# Altium schematic symbol library SamacSys.SchLib: 1311 symbols (part 6 of 14)
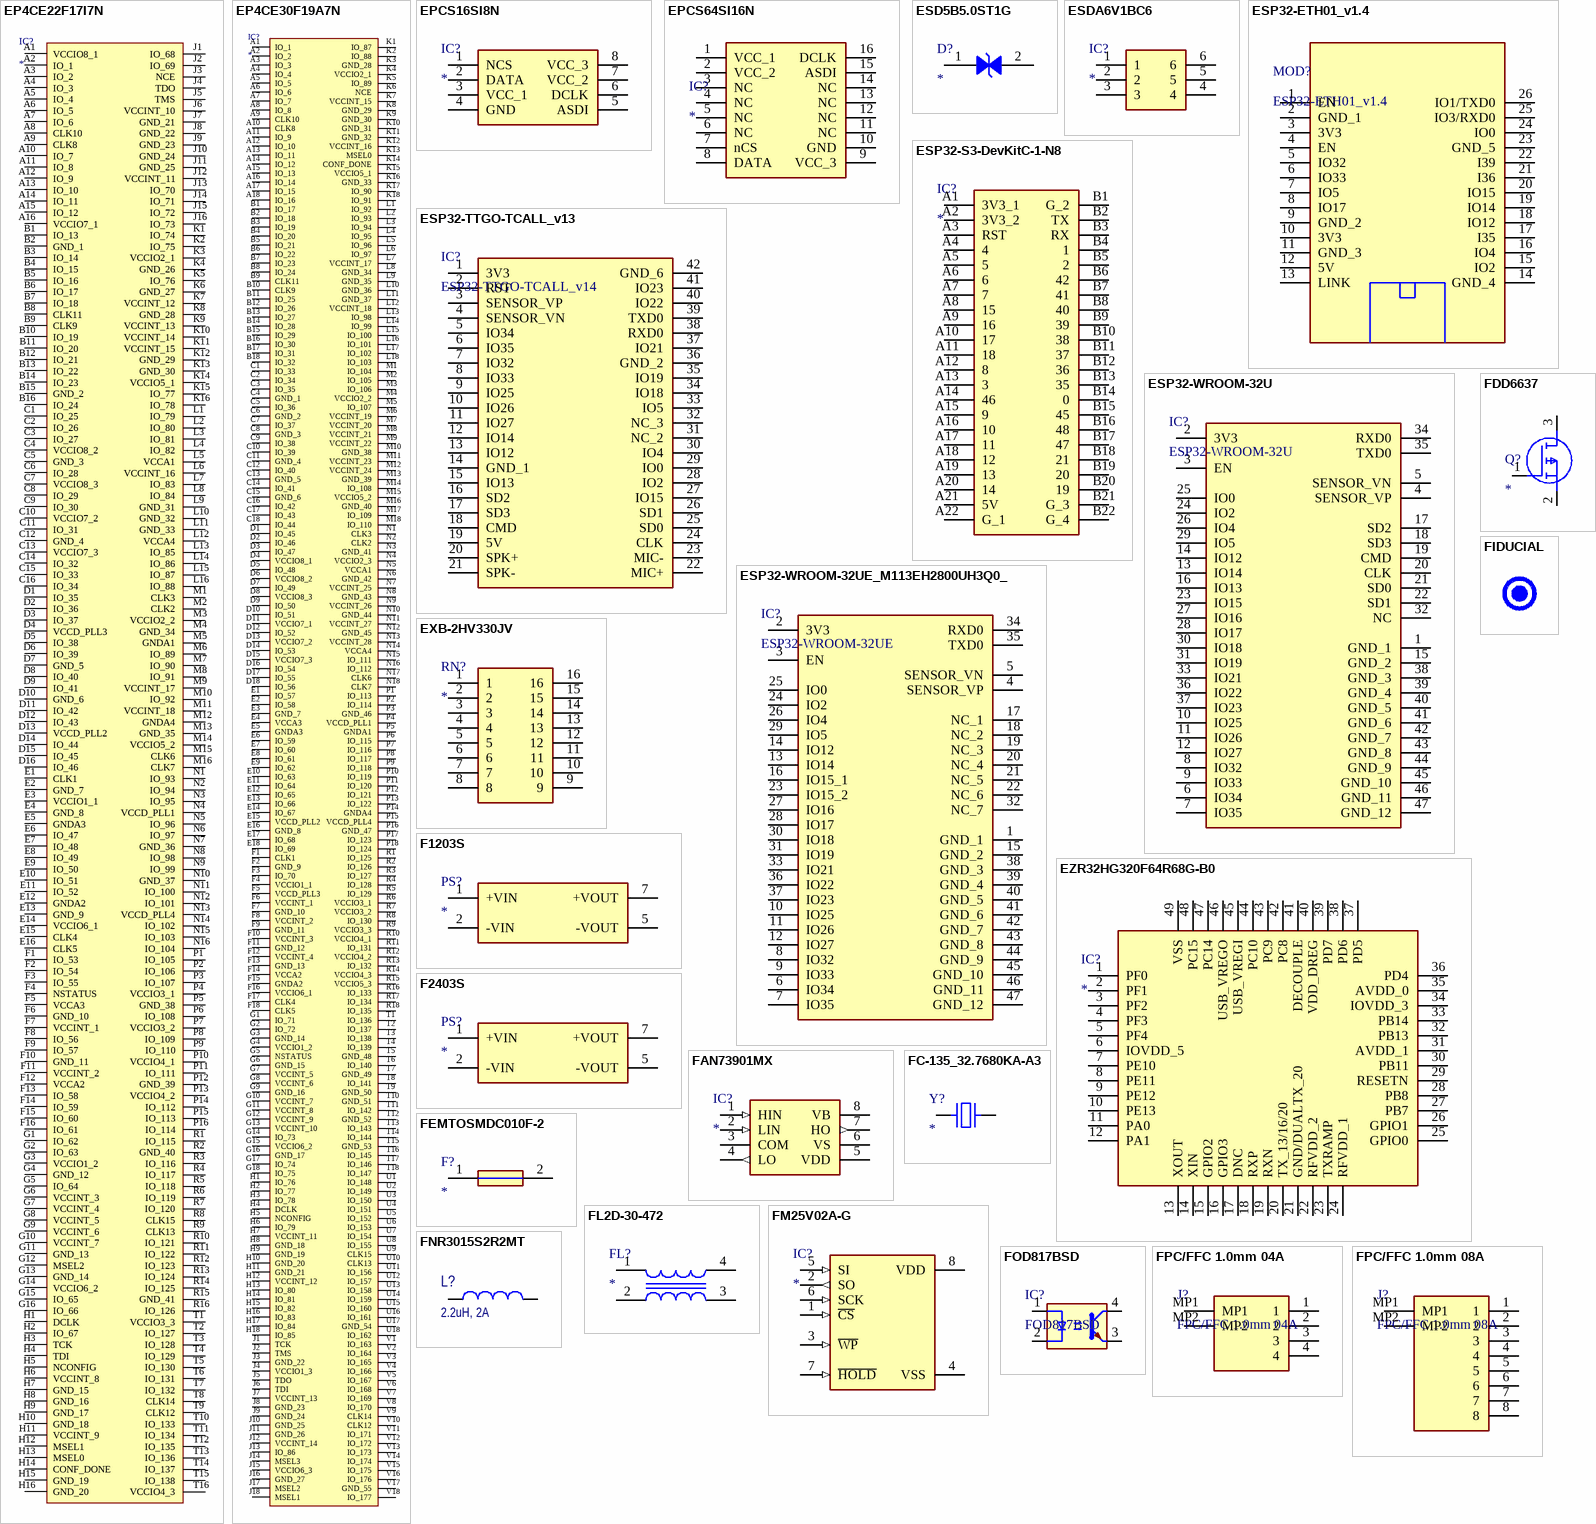
[diagram p55: symbols EP4CE22F17I7N to FPC/FFC 1.0mm 08A]

## EP4CE22F17I7N
designator IC?
Integrated Circuit; Manufacturer_Name: Intel; Manufacturer_Part_Number: EP4CE22F17I7N; Datasheet Link: https://componentsearchengine.com/Datasheets/1/EP4CE22F17I7N.pdf; Height: 1.55mm; Mouser Part Number: 989-EP4CE22F17I7N; Mouser Price/Stock: https://www.mouser.co.uk/ProductDetail/Intel-Altera/EP4CE22F17I7N?qs=jblrfmjbeiH%2FPT5k%2FC0CEQ%3D%3D; Arrow Part Number: EP4CE22F17I7N; Arrow Price/Stock: https://www.arrow.com/en/products/ep4ce22f17i7n/intel?region=nac
footprint BGA256C100P16X16_1700X1700X155
pins: A1 VCCIO8_1, A2 IO_1, A3 IO_2, A4 IO_3, A5 IO_4, A6 IO_5, A7 IO_6, A8 CLK10, A9 CLK8, A10 IO_7, A11 IO_8, A12 IO_9, A13 IO_10, A14 IO_11, A15 IO_12, A16 VCCIO7_1, B1 IO_13, B2 GND_1, B3 IO_14, B4 IO_15, B5 IO_16, B6 IO_17, B7 IO_18, B8 CLK11, B9 CLK9, B10 IO_19, B11 IO_20, B12 IO_21, B13 IO_22, B14 IO_23, B15 GND_2, B16 IO_24, C1 IO_25, C2 IO_26, C3 IO_27, C4 VCCIO8_2, C5 GND_3, C6 IO_28, C7 VCCIO8_3, C8 IO_29, C9 IO_30, C10 VCCIO7_2, C11 IO_31, C12 GND_4, C13 VCCIO7_3, C14 IO_32, C15 IO_33, C16 IO_34, D1 IO_35, D2 IO_36, D3 IO_37, D4 VCCD_PLL3, D5 IO_38, D6 IO_39, D7 GND_5, D8 IO_40, D9 IO_41, D10 GND_6, D11 IO_42, D12 IO_43, D13 VCCD_PLL2, D14 IO_44, D15 IO_45, D16 IO_46, E1 CLK1, E2 GND_7, E3 VCCIO1_1, E4 GND_8, E5 GNDA3, E6 IO_47, E7 IO_48, E8 IO_49, E9 IO_50, E10 IO_51, E11 IO_52, E12 GNDA2, E13 GND_9, E14 VCCIO6_1, E15 CLK4, E16 CLK5, F1 IO_53, F2 IO_54, F3 IO_55, F4 NSTATUS, F5 VCCA3, F6 GND_10, F7 VCCINT_1, F8 IO_56, F9 IO_57, F10 GND_11, F11 VCCINT_2, F12 VCCA2, F13 IO_58, F14 IO_59, F15 IO_60, F16 IO_61, G1 IO_62, G2 IO_63, G3 VCCIO1_2, G4 GND_12, G5 IO_64, G6 VCCINT_3, G7 VCCINT_4, G8 VCCINT_5, G9 VCCINT_6, G10 VCCINT_7, G11 GND_13, G12 MSEL2, G13 GND_14, G14 VCCIO6_2, G15 IO_65, G16 IO_66, H1 DCLK, H2 IO_67, H3 TCK, H4 TDI, H5 NCONFIG, H6 VCCINT_8, H7 GND_15, H8 GND_16, H9 GND_17, H10 GND_18, H11 VCCINT_9, H12 MSEL1, H13 MSEL0, H14 CONF_DONE, H15 GND_19, H16 GND_20, J1 IO_68, J2 IO_69, J3 NCE, J4 TDO, J5 TMS, J6 VCCINT_10, J7 GND_21, J8 GND_22, J9 GND_23, J10 GND_24, J11 GND_25, J12 VCCINT_11, J13 IO_70, J14 IO_71, J15 IO_72, J16 IO_73, K1 IO_74, K2 IO_75, K3 VCCIO2_1, K4 GND_26, K5 IO_76, K6 GND_27, K7 VCCINT_12, K8 GND_28, K9 VCCINT_13, K10 VCCINT_14, K11 VCCINT_15, K12 GND_29, K13 GND_30, K14 VCCIO5_1, K15 IO_77, K16 IO_78, L1 IO_79, L2 IO_80, L3 IO_81, L4 IO_82, L5 VCCA1, L6 VCCINT_16, L7 IO_83, L8 IO_84, L9 GND_31, L10 GND_32, L11 GND_33, L12 VCCA4, L13 IO_85, L14 IO_86, L15 IO_87, L16 IO_88, M1 CLK3, M2 CLK2, M3 VCCIO2_2, M4 GND_34, M5 GNDA1, M6 IO_89, M7 IO_90, M8 IO_91, M9 VCCINT_17, M10 IO_92, M11 VCCINT_18, M12 GNDA4, M13 GND_35, M14 VCCIO5_2, M15 CLK6, M16 CLK7, N1 IO_93, N2 IO_94, N3 IO_95, N4 VCCD_PLL1, N5 IO_96, N6 IO_97, N7 GND_36, N8 IO_98, N9 IO_99, N10 GND_37, N11 IO_100, N12 IO_101, N13 VCCD_PLL4, N14 IO_102, N15 IO_103, N16 IO_104, P1 IO_105, P2 IO_106, P3 IO_107, P4 VCCIO3_1, P5 GND_38, P6 IO_108, P7 VCCIO3_2, P8 IO_109, P9 IO_110, P10 VCCIO4_1, P11 IO_111, P12 GND_39, P13 VCCIO4_2, P14 IO_112, P15 IO_113, P16 IO_114, R1 IO_115, R2 GND_40, R3 IO_116, R4 IO_117, R5 IO_118, R6 IO_119, R7 IO_120, R8 CLK15, R9 CLK13, R10 IO_121, R11 IO_122, R12 IO_123, R13 IO_124, R14 IO_125, R15 GND_41, R16 IO_126, T1 VCCIO3_3, T2 IO_127, T3 IO_128, T4 IO_129, T5 IO_130, T6 IO_131, T7 IO_132, T8 CLK14, T9 CLK12, T10 IO_133, T11 IO_134, T12 IO_135, T13 IO_136, T14 IO_137, T15 IO_138, T16 VCCIO4_3

## EP4CE30F19A7N
designator IC?
Integrated Circuit; Manufacturer_Name: Intel; Manufacturer_Part_Number: EP4CE30F19A7N; Datasheet Link: https://www.intel.com/content/dam/www/programmable/us/en/pdfs/literature/hb/cyclone-iv/cyiv-53001.pdf; Height: 1.9mm; Mouser Part Number: 989-EP4CE30F19A7N; Mouser Price/Stock: https://www.mouser.co.uk/ProductDetail/Intel-Altera/EP4CE30F19A7N?qs=TN6zvtaX%252BaO%252Bzz8OzstL2w%3D%3D; Arrow Part Number: EP4CE30F19A7N; Arrow Price/Stock: https://www.arrow.com/en/products/ep4ce30f19a7n/intel?region=nac
footprint BGA324C100P18X18_1900X1900X190
pins: A1 IO_1, A2 IO_2, A3 IO_3, A4 IO_4, A5 IO_5, A6 IO_6, A7 IO_7, A8 IO_8, A9 CLK10, A10 CLK8, A11 IO_9, A12 IO_10, A13 IO_11, A14 IO_12, A15 IO_13, A16 IO_14, A17 IO_15, A18 IO_16, B1 IO_17, B2 IO_18, B3 IO_19, B4 IO_20, B5 IO_21, B6 IO_22, B7 IO_23, B8 IO_24, B9 CLK11, B10 CLK9, B11 IO_25, B12 IO_26, B13 IO_27, B14 IO_28, B15 IO_29, B16 IO_30, B17 IO_31, B18 IO_32, C1 IO_33, C2 IO_34, C3 IO_35, C4 GND_1, C5 IO_36, C6 GND_2, C7 IO_37, C8 GND_3, C9 IO_38, C10 IO_39, C11 GND_4, C12 IO_40, C13 GND_5, C14 IO_41, C15 GND_6, C16 IO_42, C17 IO_43, C18 IO_44, D1 IO_45, D2 IO_46, D3 IO_47, D4 VCCIO8_1, D5 IO_48, D6 VCCIO8_2, D7 IO_49, D8 VCCIO8_3, D9 IO_50, D10 IO_51, D11 VCCIO7_1, D12 IO_52, D13 VCCIO7_2, D14 IO_53, D15 VCCIO7_3, D16 IO_54, D17 IO_55, D18 IO_56, E1 IO_57, E2 IO_58, E3 GND_7, E4 VCCA3, E5 GNDA3, E6 IO_59, E7 IO_60, E8 IO_61, E9 IO_62, E10 IO_63, E11 IO_64, E12 IO_65, E13 IO_66, E14 IO_67, E15 VCCD_PLL2, E16 GND_8, E17 IO_68, E18 IO_69, F1 CLK1, F2 GND_9, F3 IO_70, F4 VCCIO1_1, F5 VCCD_PLL3, F6 VCCINT_1, F7 GND_10, F8 VCCINT_2, F9 GND_11, F10 VCCINT_3, F11 GND_12, F12 VCCINT_4, F13 GND_13, F14 VCCA2, F15 GNDA2, F16 VCCIO6_1, F17 CLK4, F18 CLK5, G1 IO_71, G2 IO_72, G3 GND_14, G4 VCCIO1_2, G5 NSTATUS, G6 GND_15, G7 VCCINT_5, G8 VCCINT_6, G9 GND_16, G10 VCCINT_7, G11 VCCINT_8, G12 VCCINT_9, G13 VCCINT_10, G14 IO_73, G15 VCCIO6_2, G16 GND_17, G17 IO_74, G18 IO_75, H1 IO_76, H2 IO_77, H3 IO_78, H4 DCLK, H5 NCONFIG, H6 IO_79, H7 VCCINT_11, H8 GND_18, H9 GND_19, H10 GND_20, H11 GND_21, H12 VCCINT_12, H13 IO_80, H14 IO_81, H15 IO_82, H16 IO_83, H17 IO_84, H18 IO_85, J1 TCK, J2 TMS, J3 GND_22, J4 VCCIO1_3, J5 TDO, J6 TDI, J7 VCCINT_13, J8 GND_23, J9 GND_24, J10 GND_25, J11 GND_26, J12 VCCINT_14, J13 IO_86, J14 MSEL3, J15 VCCIO6_3, J16 GND_27, J17 MSEL2, J18 MSEL1, K1 IO_87, K2 IO_88, K3 GND_28, K4 VCCIO2_1, K5 IO_89, K6 NCE, K7 VCCINT_15, K8 GND_29, K9 GND_30, K10 GND_31, K11 GND_32, K12 VCCINT_16, K13 MSEL0, K14 CONF_DONE, K15 VCCIO5_1, K16 GND_33, K17 IO_90, K18 IO_91, L1 IO_92, L2 IO_93, L3 IO_94, L4 IO_95, L5 IO_96, L6 IO_97, L7 VCCINT_17, L8 GND_34, L9 GND_35, L10 GND_36, L11 GND_37, L12 VCCINT_18, L13 IO_98, L14 IO_99, L15 IO_100, L16 IO_101, L17 IO_102, L18 IO_103, M1 IO_104, M2 IO_105, M3 IO_106, M4 VCCIO2_2, M5 IO_107, M6 VCCINT_19, M7 VCCINT_20, M8 VCCINT_21, M9 VCCINT_22, M10 GND_38, M11 VCCINT_23, M12 VCCINT_24, M13 GND_39, M14 IO_108, M15 VCCIO5_2, M16 GND_40, M17 IO_109, M18 IO_110, N1 CLK3, N2 CLK2, N3 GND_41, N4 VCCIO2_3, N5 VCCA1, N6 GND_42, N7 VCCINT_25, N8 GND_43, N9 VCCINT_26, N10 GND_44, N11 VCCINT_27, N12 GND_45, N13 VCCINT_28, N14 VCCA4, N15 IO_111, N16 IO_112, N17 CLK6, N18 CLK7, P1 IO_113, P2 IO_114, P3 GND_46, P4 VCCD_PLL1, P5 GNDA1, P6 IO_115, P7 IO_116, P8 IO_117, P9 IO_118, P10 IO_119, P11 IO_120, P12 IO_121, P13 IO_122, P14 GNDA4, P15 VCCD_PLL4, P16 GND_47, P17 IO_123, P18 IO_124, R1 IO_125, R2 IO_126, R3 IO_127, R4 IO_128, R5 IO_129, R6 VCCIO3_1, R7 VCCIO3_2, R8 IO_130, R9 VCCIO3_3, R10 VCCIO4_1, R11 IO_131, R12 VCCIO4_2, R13 IO_132, R14 VCCIO4_3, R15 VCCIO5_3, R16 IO_133, R17 IO_134, R18 IO_135, T1 IO_136, T2 IO_137, T3 IO_138, T4 IO_139, T5 GND_48, T6 IO_140, T7 GND_49, T8 IO_141, T9 GND_50, T10 GND_51, T11 IO_142, T12 GND_52, T13 IO_143, T14 IO_144, T15 GND_53, T16 IO_145, T17 IO_146, T18 IO_147, U1 IO_148, U2 IO_149, U3 IO_150, U4 IO_151, U5 IO_152, U6 IO_153, U7 IO_154, U8 IO_155, U9 CLK15, U10 CLK13, U11 IO_156, U12 IO_157, U13 IO_158, U14 IO_159, U15 IO_160, U16 IO_161, U17 GND_54, U18 IO_162, V1 IO_163, V2 IO_164, V3 IO_165, V4 IO_166, V5 IO_167, V6 IO_168, V7 IO_169, V8 IO_170, V9 CLK14, V10 CLK12, V11 IO_171, V12 IO_172, V13 IO_173, V14 IO_174, V15 IO_175, V16 IO_176, V17 GND_55, V18 IO_177

## EPCS16SI8N
designator IC?
Integrated Circuit; Manufacturer_Name: Intel; Manufacturer_Part_Number: EPCS16SI8N; Datasheet Link: https://www.altera.com/content/dam/altera-www/global/en_US/pdfs/literature/hb/cfg/cyc_c51014.pdf; Height: 1.75mm; Mouser Part Number: 989-EPCS16SI8N; Mouser Price/Stock: https://www.mouser.co.uk/ProductDetail/Intel-Altera/EPCS16SI8N?qs=jblrfmjbeiGHe8tBSE23uQ%3D%3D; Arrow Part Number: EPCS16SI8N; Arrow Price/Stock: https://www.arrow.com/en/products/epcs16si8n/intel?region=nac
footprint SOIC127P600X175-8N
pins: 1 NCS, 2 DATA, 3 VCC_1, 4 GND, 5 ASDI, 6 DCLK, 7 VCC_2, 8 VCC_3

## EPCS64SI16N
designator IC?
Integrated Circuit; Manufacturer_Name: Intel; Manufacturer_Part_Number: EPCS16SI8N; Datasheet Link: https://www.altera.com/content/dam/altera-www/global/en_US/pdfs/literature/hb/cfg/cyc_c51014.pdf; Height: 1.75mm; Mouser Part Number: 989-EPCS16SI8N; Mouser Price/Stock: https://www.mouser.co.uk/ProductDetail/Intel-Altera/EPCS16SI8N?qs=jblrfmjbeiGHe8tBSE23uQ%3D%3D; Arrow Part Number: EPCS16SI8N; Arrow Price/Stock: https://www.arrow.com/en/products/epcs16si8n/intel?region=nac
footprint SOIC127P1030X265-16N
pins: 1 VCC_1, 2 VCC_2, 3 NC, 4 NC, 5 NC, 6 NC, 7 nCS, 8 DATA, 9 VCC_3, 10 GND, 11 NC, 12 NC, 13 NC, 14 NC, 15 ASDI, 16 DCLK

## ESD5B5.0ST1G
designator D?
Diode; Manufacturer_Name: onsemi; Manufacturer_Part_Number: ESD5B5.0ST1G; Datasheet Link: http://www.onsemi.com/pub/Collateral/ESD5B5.0ST1-D.PDF; Height: 0.7mm; Mouser Part Number: 863-ESD5B50ST1G; Mouser Price/Stock: https://www.mouser.co.uk/ProductDetail/onsemi/ESD5B5.0ST1G?qs=bTNLGnZZEJg%2Fr8bn3zOMJw%3D%3D; Arrow Part Number: ESD5B5.0ST1G; Arrow Price/Stock: https://www.arrow.com/en/products/esd5b5.0st1g/on-semiconductor?region=nac
footprint SODFL1608X70N
pins: 1 K, 2 A

## ESDA6V1BC6
designator IC?
Integrated Circuit; Manufacturer_Name: STMicroelectronics; Manufacturer_Part_Number: ESDA6V1BC6; Datasheet Link: http://docs-emea.rs-online.com/webdocs/096e/0900766b8096e454.pdf; Height: 1.45mm; Mouser Part Number: 511-ESDA6V1BC6; Mouser Price/Stock: https://www.mouser.co.uk/ProductDetail/STMicroelectronics/ESDA6V1BC6?qs=9PdvrqCL7oAFp2zmpu55Tw%3D%3D; Arrow Part Number: ESDA6V1BC6; Arrow Price/Stock: https://www.arrow.com/en/products/esda6v1bc6/stmicroelectronics?region=nac
footprint SOT95P280X145-6N
pins: 1, 2, 3, 4, 5, 6

## ESP32-ETH01_v1.4
designator MOD?
MODULE ESP32; Manufacturer_Name: Espressif Systems; Manufacturer_Part_Number: ESP32-ETH01_v14
footprint ESP32-ETH01
footprint ESP32-ETH01_REVERSE
pins: 1 EN, 2 GND_1, 3 3V3, 4 EN, 5 IO32, 6 IO33, 7 IO5, 8 IO17, 9 GND_2, 10 3V3, 11 GND_3, 12 5V, 13 LINK, 14 GND_4, 15 IO2, 16 IO4, 17 I35, 18 IO12, 19 IO14, 20 IO15, 21 I36, 22 I39, 23 GND_5, 24 IO0, 25 IO3/RXD0, 26 IO1/TXD0

## ESP32-S3-DevKitC-1-N8
designator IC?
Integrated Circuit; Manufacturer_Name: Espressif Systems; Manufacturer_Part_Number: ESP32-S3-DevKitC-1-N8; Datasheet Link: https://docs.espressif.com/projects/esp-idf/en/latest/esp32s3/hw-reference/esp32s3/user-guide-devkitc-1.html; Height: 7mm; Mouser Part Number: 356-ESP32-S3DVKTC1N8; Mouser Price/Stock: https://www.mouser.co.uk/ProductDetail/Espressif-Systems/ESP32-S3-DevKitC-1-N8?qs=Wj%2FVkw3K%252BMCTHFMHLvA1pQ%3D%3D
footprint ESP32S3DevKitC1N8
pins: A1 3V3_1, A2 3V3_2, A3 RST, A4 4, A5 5, A6 6, A7 7, A8 15, A9 16, A10 17, A11 18, A12 8, A13 3, A14 46, A15 9, A16 10, A17 11, A18 12, A19 13, A20 14, A21 5V, A22 G_1, B1 G_2, B2 TX, B3 RX, B4 1, B5 2, B6 42, B7 41, B8 40, B9 39, B10 38, B11 37, B12 36, B13 35, B14 0, B15 45, B16 48, B17 47, B18 21, B19 20, B20 19, B21 G_3, B22 G_4

## ESP32-TTGO-TCALL_v13
designator IC?, comment ESP32-TTGO-TCALL_v14
MODULE; Manufacturer_Name: Xinyuan-LilyGO; Datasheet Link: https://github.com/Xinyuan-LilyGO/LilyGo-T-Call-SIM800; Height: 3.35mm; Manufacturer_Part_Number: TTGO-TCALL_v14
footprint ESP32WROOM32UE
footprint ESP32WROOM32E
pins: 1 3V3, 2 RST, 3 SENSOR_VP, 4 SENSOR_VN, 5 IO34, 6 IO35, 7 IO32, 8 IO33, 9 IO25, 10 IO26, 11 IO27, 12 IO14, 13 IO12, 14 GND_1, 15 IO13, 16 SD2, 17 SD3, 18 CMD, 19 5V, 20 SPK+, 21 SPK-, 22 MIC+, 23 MIC-, 24 CLK, 25 SD0, 26 SD1, 27 IO15, 28 IO2, 29 IO0, 30 IO4, 31 NC_2, 32 NC_3, 33 IO5, 34 IO18, 35 IO19, 36 GND_2, 37 IO21, 38 RXD0, 39 TXD0, 40 IO22, 41 IO23, 42 GND_6

## ESP32-WROOM-32U
designator IC?
Integrated Circuit; Manufacturer_Name: Espressif Systems; Datasheet Link: https://www.mouser.co.uk/datasheet/2/891/esp32_wroom_32e_esp32_wroom_32ue_datasheet_en-1855879.pdf; Height: 3.35mm; Manufacturer_Part_Number: ESP32-WROOM-32U; Mouser Part Number: N/A; Mouser Price/Stock: https://www.mouser.co.uk/ProductDetail/Espressif-Systems/ESP32-WROOM-32UEM113EH2800UH3Q0?qs=vHuUswq2%252BswmjMZOJoYkgw%3D%3D
footprint ESP32WROOM32UE
footprint ESP32WROOM32E
pins: 1 GND_1, 2 3V3, 3 EN, 4 SENSOR_VP, 5 SENSOR_VN, 6 IO34, 7 IO35, 8 IO32, 9 IO33, 10 IO25, 11 IO26, 12 IO27, 13 IO14, 14 IO12, 15 GND_2, 16 IO13, 17 SD2, 18 SD3, 19 CMD, 20 CLK, 21 SD0, 22 SD1, 23 IO15, 24 IO2, 25 IO0, 26 IO4, 27 IO16, 28 IO17, 29 IO5, 30 IO18, 31 IO19, 32 NC, 33 IO21, 34 RXD0, 35 TXD0, 36 IO22, 37 IO23, 38 GND_3, 39 GND_4, 40 GND_5, 41 GND_6, 42 GND_7, 43 GND_8, 44 GND_9, 45 GND_10, 46 GND_11, 47 GND_12

## ESP32-WROOM-32UE_M113EH2800UH3Q0_
designator IC?, comment ESP32-WROOM-32UE
Integrated Circuit; Manufacturer_Name: Espressif Systems; Manufacturer_Part_Number: ESP32-WROOM-32UE(M113EH2800UH3Q0); Datasheet Link: https://www.mouser.co.uk/datasheet/2/891/esp32_wroom_32e_esp32_wroom_32ue_datasheet_en-1855879.pdf; Height: 3.35mm; Mouser Part Number: N/A; Mouser Price/Stock: https://www.mouser.co.uk/ProductDetail/Espressif-Systems/ESP32-WROOM-32UEM113EH2800UH3Q0?qs=vHuUswq2%252BswmjMZOJoYkgw%3D%3D
footprint ESP32WROOM32UE
footprint ESP32WROOM32E
pins: 1 GND_1, 2 3V3, 3 EN, 4 SENSOR_VP, 5 SENSOR_VN, 6 IO34, 7 IO35, 8 IO32, 9 IO33, 10 IO25, 11 IO26, 12 IO27, 13 IO14, 14 IO12, 15 GND_2, 16 IO15_1, 17 NC_1, 18 NC_2, 19 NC_3, 20 NC_4, 21 NC_5, 22 NC_6, 23 IO15_2, 24 IO2, 25 IO0, 26 IO4, 27 IO16, 28 IO17, 29 IO5, 30 IO18, 31 IO19, 32 NC_7, 33 IO21, 34 RXD0, 35 TXD0, 36 IO22, 37 IO23, 38 GND_3, 39 GND_4, 40 GND_5, 41 GND_6, 42 GND_7, 43 GND_8, 44 GND_9, 45 GND_10, 46 GND_11, 47 GND_12

## EXB-2HV330JV
designator RN?
Resistor Network; Manufacturer_Name: Panasonic; Manufacturer_Part_Number: EXB-2HV330JV; Datasheet Link: https://industrial.panasonic.com/cdbs/www-data/pdf/AOC0000/AOC0000C14.pdf; Mouser Part Number: 667-EXB-2HV330JV; Mouser Price/Stock: https://www.mouser.co.uk/ProductDetail/Panasonic/EXB-2HV330JV?qs=oE3VwAv%2FYtmbx%252BZbUgfrZg%3D%3D; Arrow Part Number: EXB-2HV330JV; Arrow Price/Stock: https://www.arrow.com/en/products/exb-2hv330jv/panasonic?region=nac
footprint EXB2HV_1
pins: 1, 2, 3, 4, 5, 6, 7, 8, 9, 10, 11, 12, 13, 14, 15, 16

## EZR32HG320F64R68G-B0
designator IC?
Integrated Circuit; Manufacturer_Name: Silicon Labs; Manufacturer_Part_Number: EZR32HG320F64R68G-B0; Datasheet Link: https://www.silabs.com/documents/public/data-sheets/EZR32HG320-DataSheet.pdf; Height: 0.9mm; Mouser Part Number: 634-ZR32HG320F64R68G; Mouser Price/Stock: https://www.mouser.com/Search/Refine.aspx?Keyword=634-ZR32HG320F64R68G; Arrow Part Number: EZR32HG320F64R68G-B0; Arrow Price/Stock: https://www.arrow.com/en/products/ezr32hg320f64r68g-b0/silicon-labs
footprint QFN50P700X700X90-49N
pins: 1 PF0, 2 PF1, 3 PF2, 4 PF3, 5 PF4, 6 IOVDD_5, 7 PE10, 8 PE11, 9 PE12, 10 PE13, 11 PA0, 12 PA1, 13 XOUT, 14 XIN, 15 GPIO2, 16 GPIO3, 17 DNC, 18 RXP, 19 RXN, 20 TX_13/16/20, 21 GND/DUALTX_20, 22 RFVDD_2, 23 TXRAMP, 24 RFVDD_1, 25 GPIO0, 26 GPIO1, 27 PB7, 28 PB8, 29 RESETN, 30 PB11, 31 AVDD_1, 32 PB13, 33 PB14, 34 IOVDD_3, 35 AVDD_0, 36 PD4, 37 PD5, 38 PD6, 39 PD7, 40 VDD_DREG, 41 DECOUPLE, 42 PC8, 43 PC9, 44 PC10, 45 USB_VREGI, 46 USB_VREGO, 47 PC14, 48 PC15, 49 VSS

## F1203S
designator PS?
Power Supply; Manufacturer_Name: Mornsun; Manufacturer_Part_Number: F1203S-1WR3; Datasheet Link: https://www.mornsun-power.com/html/pdf/F1203S-1WR3.html; Height: 10.45mm
footprint F_S-1WR3
pins: 1 +VIN, 2 -VIN, 5 -VOUT, 7 +VOUT

## F2403S
designator PS?
Power Supply; Manufacturer_Name: Mornsun; Manufacturer_Part_Number: F2403S-1WR3; Datasheet Link: https://www.mornsun-power.com/html/pdf/F1203S-1WR3.html; Height: 10.45mm
footprint F_S-2WR3
pins: 1 +VIN, 2 -VIN, 5 -VOUT, 7 +VOUT

## FAN73901MX
designator IC?
Integrated Circuit; Manufacturer_Name: onsemi; Manufacturer_Part_Number: FAN73901MX; Datasheet Link: https://rs.componentsearchengine.com/Datasheets/2/FAN73901MX.pdf; Height: 1.8mm; Mouser Part Number: 512-FAN73901MX; Mouser Price/Stock: https://www.mouser.com/Search/Refine.aspx?Keyword=512-FAN73901MX; Arrow Part Number: FAN73901MX; Arrow Price/Stock: https://www.arrow.com/en/products/fan73901mx/on-semiconductor?region=nac
footprint SOIC127P600X180-8N
pins: 1 HIN (in), 2 LIN (in), 3 COM (power), 4 LO (out), 5 VDD (power), 6 VS (power), 7 HO (out), 8 VB (power)

## FC-135_32.7680KA-A3
designator Y?
Crystal or Oscillator; Manufacturer_Name: Epson Timing; Manufacturer_Part_Number: FC-135 32.7680KA-A3; Datasheet Link: https://support.epson.biz/td/api/doc_check.php?dl=brief_FC-135&lang=en; Height: 0.9mm; Mouser Part Number: 732-FC-13532.76KAA3; Mouser Price/Stock: https://www.mouser.co.uk/ProductDetail/Epson-Timing/FC-135-32.7680KA-A0?qs=tC2qD9afNgrMeRwy3OalUw%3D%3D; Arrow Part Number: FC-135 32.7680KA-A3; Arrow Price/Stock: https://www.arrow.com/en/products/fc-13532.7680ka-a0/epson-electronics-america?region=nac
footprint FC135
pins: 1, 2

## FDD6637
designator Q?
MOSFET (P-Channel); Manufacturer_Name: onsemi; Manufacturer_Part_Number: FDD6637; Datasheet Link: https://www.onsemi.com/pub/Collateral/FDD6637-D.pdf; Mouser Part Number: 512-FDD6637; Mouser Price/Stock: https://www.mouser.co.uk/ProductDetail/onsemi-Fairchild/FDD6637?qs=QtMogMNCb1N7QzKZFiup1Q%3D%3D; Arrow Part Number: FDD6637; Arrow Price/Stock: https://www.arrow.com/en/products/fdd6637_1/on-semiconductor.html?utm_currency=USD&region=nac
footprint DPAK3-CASE-369AS
pins: 1 G, 2 S, 3 D

## FEMTOSMDC010F-2
designator F?
Fuse; Manufacturer_Name: LITTELFUSE; Manufacturer_Part_Number: FEMTOSMDC010F-2; Datasheet Link: https://www.mouser.com/datasheet/2/240/Littelfuse_PTC_FEMTOSMD_Catalog_Datasheet.pdf-1021717.pdf; Height: 0.85mm; Mouser Part Number: 650-FEMTOSMDC010F-2; Mouser Price/Stock: https://www.mouser.co.uk/ProductDetail/Littelfuse/FEMTOSMDC010F-2?qs=pBN%2FbMTRZdfivGqCKpN9Gw%3D%3D; Arrow Part Number: FEMTOSMDC010F-2; Arrow Price/Stock: https://www.arrow.com/en/products/femtosmdc010f-2/littelfuse?region=nac
footprint FUSC1608X85N (Footprint not found)
pins: 1, 2

## FIDUCIAL
designator FID?, comment Fiducial Point  (value not drawn)  (no BOM)
footprint fiducial_1_3 (Fiducial point Medium IN 1mm OUT 3mm)
footprint fiducial_1_2 (Fiducial point Small IN 1mm OUT 2mm)

## FL2D-30-472
designator FL?
Filter; Manufacturer_Name: Mornsun Power; Manufacturer_Part_Number: FL2D-30-472; Datasheet Link: https://www.mornsun-power.com/html/pdf/FL2D-30-472.html; Height: 23.5mm
footprint FL2D30472
pins: 1, 2, 3, 4

## FM25V02A-G
designator IC?
Integrated Circuit; Manufacturer_Name: Infineon; Manufacturer_Part_Number: FM25V02A-G; Datasheet Link: https://componentsearchengine.com/Datasheets/1/FM25V02A-G.pdf; Height: 1.549mm; Arrow Part Number: FM25V02A-G; Arrow Price/Stock: https://www.arrow.com/en/products/fm25v02a-g/infineon-technologies-ag?region=europe
footprint SOT127P602X155-8N
pins: 1 ~{CS} (in), 2 SO (out), 3 ~{WP} (in), 4 VSS (power), 5 SI (in), 6 SCK (in), 7 ~{HOLD} (in), 8 VDD (power)

## FNR3015S2R2MT
designator L?, comment 2.2uH, 2A
Inductor; Manufacturer: cjiang; Manufacturer Part Number: FNR3015S2R2MT; LCSC Part #: C167747
footprint FNR3015S
pins: 1, 2

## FOD817BSD
designator IC?
OPTOISOLATOR 5KV 1CH TRANS 4-SMD; Manufacturer_Name: onsemi; Datasheet Link: https://www.onsemi.com/pub/Collateral/FOD814-D.PDF; Height: 3.85mm; Manufacturer_Part_Number: FOD817BSD; Mouser Part Number: 512-FOD817BSD; Mouser Price/Stock: https://www.mouser.co.uk/ProductDetail/onsemi-Fairchild/FOD817BSD?qs=rOFvSC%252BbttTW%252BrbYJDyoCQ%3D%3D; Arrow Part Number: FOD817BSD; Arrow Price/Stock: null?region=asia
footprint SOP254P1016X385-4N (Footprint not found)
pins: 1, 2, 3, 4

## FPC/FFC 1.0mm 04A
designator J?
Connector, FFC, 4pin, 1mm; Manufacturer_Name: Ruichi; Datasheet Link: https://static.chipdip.ru/lib/135/DOC062135222.pdf; Height: 2.5mm
footprint LW10251-04 (FFC 1mm 4pin)
pins: 1, 2, 3, 4, MP1, MP2

## FPC/FFC 1.0mm 08A
designator J?
Connector, FFC, 8pin, 1mm; Manufacturer_Name: Ruichi; Datasheet Link: https://static.chipdip.ru/lib/135/DOC062135222.pdf; Height: 2.5
footprint LW10251-08 (FFC 1mm 8pin)
pins: 1, 2, 3, 4, 5, 6, 7, 8, MP1, MP2

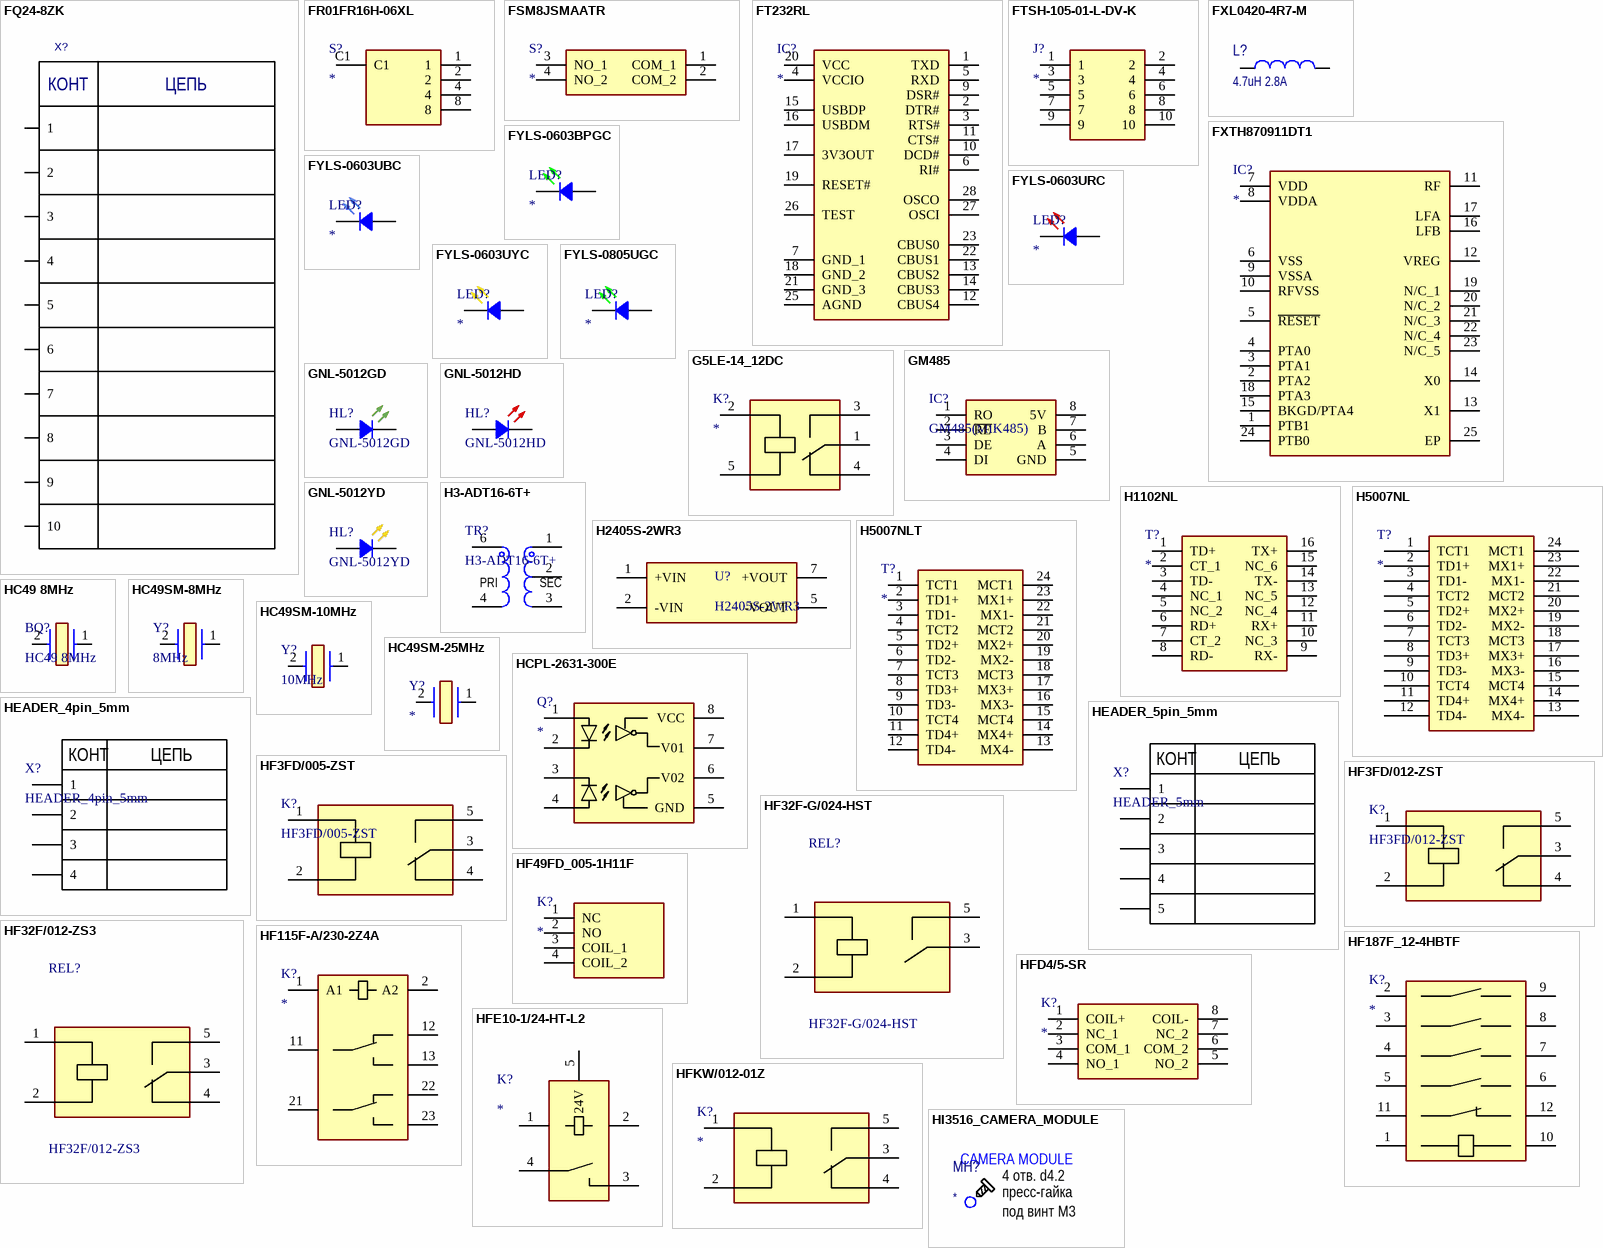
[diagram p19: symbols FQ24-8ZK to HI3516_CAMERA_MODULE]

## FQ24-8ZK
designator X?  (value not drawn)
Connector; Part Number: FQ24-8ZK; System: Connector
footprint FQ24-8ZK
pins: 1, 2, 3, 4, 5, 6, 7, 8, 9, 10
text: КОНТ; ЦЕПЬ

## FR01FR16H-06XL
designator S?
Switch; Manufacturer_Name: NKK Switches; Manufacturer_Part_Number: FR01FR16H-06XL; Datasheet Link: https://www.nkkswitches.com/pdf/FR01-2.pdf; Height: 10mm; Mouser Part Number: 633-FR01FR16H-06XL; Mouser Price/Stock: https://www.mouser.co.uk/ProductDetail/NKK-Switches/FR01FR16H-06XL?qs=g%252BEszo6zu8NJkaATc7RflA%3D%3D; Arrow Part Number: FR01FR16H-06XL; Arrow Price/Stock: https://www.arrow.com/en/products/fr01fr16h-06xl/nkk-switches
footprint FR01FR16H06XL
pins: 1, 2, 4, 8, C1

## FSM8JSMAATR
designator S?
Switch; Manufacturer_Name: TE Connectivity; Manufacturer_Part_Number: FSM8JSMAATR; Datasheet Link: https://www.mouser.co.uk/datasheet/2/418/1/NG_CD_2-1437565-7_V-1100109.pdf; Mouser Part Number: 506-FSM8JSMAATR; Mouser Price/Stock: https://www.mouser.co.uk/ProductDetail/TE-Connectivity-PB/FSM8JSMAATR?qs=jiqFPbo5wQUL4VmJsE%2Fhuw%3D%3D; Arrow Part Number: FSM8JSMAATR; Arrow Price/Stock: https://www.arrow.com/en/products/fsm8jsmaatr/te-connectivity?utm_currency=USD&region=nac
footprint FSM8JSMAATR
pins: 1 COM_1, 2 COM_2, 3 NO_1, 4 NO_2

## FT232RL
designator IC?
Integrated Circuit; Manufacturer_Name: FTDI Chip; Manufacturer_Part_Number: FT232RL-TUBE; Datasheet Link: http://www.ftdichip.com/Support/Documents/DataSheets/ICs/DS_FT232R.pdf; Height: 2mm; Mouser Part Number: 895-FT232RL-TUBE; Mouser Price/Stock: https://www.mouser.co.uk/ProductDetail/FTDI/FT232RL-TUBE?qs=D1%2FPMqvA100UF95YMvGN8w%3D%3D; Arrow Part Number: FT232RL-TUBE; Arrow Price/Stock: https://www.arrow.com/en/products/ft232rl-tube/ftdi-chip
footprint SOP65P780X200-28N
pins: 1 TXD, 2 DTR#, 3 RTS#, 4 VCCIO, 5 RXD, 6 RI#, 7 GND_1, 9 DSR#, 10 DCD#, 11 CTS#, 12 CBUS4, 13 CBUS2, 14 CBUS3, 15 USBDP, 16 USBDM, 17 3V3OUT, 18 GND_2, 19 RESET#, 20 VCC, 21 GND_3, 22 CBUS1, 23 CBUS0, 25 AGND, 26 TEST, 27 OSCI, 28 OSCO

## FTSH-105-01-L-DV-K
designator J?
Connector; Manufacturer_Name: SAMTEC; Manufacturer_Part_Number: FTSH-105-01-L-DV-K; Datasheet Link: https://www.arrow.com/en/products/ftsh-105-01-l-dv-k/samtec; Height: 6.1mm; Mouser Part Number: 200-FTSH10501LDVK; Mouser Price/Stock: https://www.mouser.co.uk/ProductDetail/Samtec/FTSH-105-01-L-DV-K?qs=%252B5JSS813miOqo3Vy%252BvhCFg%3D%3D; Arrow Part Number: FTSH-105-01-L-DV-K; Arrow Price/Stock: https://www.arrow.com/en/products/ftsh-105-01-l-dv-k/samtec?region=europe
footprint FTSH10501LDVK
pins: 1, 2, 3, 4, 5, 6, 7, 8, 9, 10

## FXL0420-4R7-M
designator L?, comment 4.7uH 2.8A
FIXED IND 4.7uH 2.8A 105mΩ SMD,4.2x4.4mm; Manufacturer: cjiang; Manufacturer Part Number: FXL0420-4R7-M; LCSC Part #: C167208; Value: 4.7uH 2.8A
footprint FXL0420
pins: 1, 2

## FXTH870911DT1
designator IC?
Integrated Circuit; Manufacturer_Name: NXP; Manufacturer_Part_Number: FXTH870911DT1; Datasheet Link: https://datasheet.datasheetarchive.com/originals/distributors/DKDS-7/124449.pdf; Height: 2.3mm; Mouser Part Number: 841-FXTH870911DT1; Mouser Price/Stock: https://www.mouser.co.uk/ProductDetail/NXP-Semiconductors/FXTH870911DT1?qs=y0HsvvugQ47vJCxCR%252BmP0w%3D%3D; Arrow Part Number: FXTH870911DT1; Arrow Price/Stock: https://www.arrow.com/en/products/fxth870911dt1/nxp-semiconductors
footprint QFN100P700X700X230-25N-D
pins: 1 PTB1, 2 PTA2, 3 PTA1, 4 PTA0, 5 ~{RESET}, 6 VSS, 7 VDD, 8 VDDA, 9 VSSA, 10 RFVSS, 11 RF, 12 VREG, 13 X1, 14 X0, 15 BKGD/PTA4, 16 LFB, 17 LFA, 18 PTA3, 19 N/C_1, 20 N/C_2, 21 N/C_3, 22 N/C_4, 23 N/C_5, 24 PTB0, 25 EP

## FYLS-0603BPGC
designator LED?
LED, 0603, GREEN; Manufacturer_Name: FORYARD; Manufacturer_Part_Number: FYLS-0603BPGC; Datasheet Link: https://v4.cecdn.yun300.cn/100001_2003185297/7%20FYLS-0603BXXXC-D.pdf; Height: 0.6mm
footprint LEDC1608X55N_GREEN
pins: 1 A, 2 C

## FYLS-0603UBC
designator LED?
LED, 0603, BLUE; Manufacturer_Name: FORYARD; Manufacturer_Part_Number: FYLS-0603UBC; Datasheet Link: https://v4.cecdn.yun300.cn/100001_2003185297/7%20FYLS-0603BXXXC-D.pdf; Height: 0.6mm
footprint LEDC1608X55N_BLUE
pins: 1 A, 2 C

## FYLS-0603URC
designator LED?
LED, 0603, RED; Manufacturer_Name: FORYARD; Manufacturer_Part_Number: FYLS-0603URC; Datasheet Link: https://v4.cecdn.yun300.cn/100001_2003185297/7%20FYLS-0603BXXXC-D.pdf; Height: 0.6mm
footprint LEDC1608X55N_RED
pins: 1 A, 2 C

## FYLS-0603UYC
designator LED?
LED, 0603, YELLOW; Manufacturer_Name: FORYARD; Manufacturer_Part_Number: FYLS-0603UYC; Datasheet Link: https://v4.cecdn.yun300.cn/100001_2003185297/7%20FYLS-0603BXXXC-D.pdf; Height: 0.6mm
footprint LEDC1608X55N_YELLOW
pins: 1 A, 2 C

## FYLS-0805UGC
designator LED?
LED, 0805, GREEN; Manufacturer_Name: FORYARD; Manufacturer_Part_Number: FYLS-0805UGC; Datasheet Link: https://v4.cecdn.yun300.cn/100001_2003185297/7%20FYLS-0603BXXXC-D.pdf; Height: 0.6mm
footprint LEDC2012X110N
pins: 1 A, 2 C

## G5LE-14_12DC
designator K?
Relay; Manufacturer_Name: Omron Electronics; Manufacturer_Part_Number: G5LE-14 12DC; Datasheet Link: https://www.omron.com/ecb/products/pdf/en-g5le.pdf; Arrow Part Number: G5LE-14 12DC; Arrow Price/Stock: https://www.arrow.com/en/products/g5le1412dc/omron
footprint G5LE-1
pins: 1 COIL_1, 2 NC, 3 NO, 4 COIL_2, 5 COM

## GM485
designator IC?, comment GM485(MIK485)
Integrated Circuit, RS-485; Manufacturer_Name: Analog Devices; Manufacturer_Part_Number: ADM3485ARZ; Datasheet Link: https://tellur-el.ru/upload/iblock/10b/f24nra7n0usjcjwdd7j1s1y0al2gk06p.pdf; Height: 1.75mm; Mouser Part Number: 584-ADM3485ARZ; Mouser Price/Stock: https://www.mouser.co.uk/ProductDetail/Analog-Devices/ADM3485ARZ?qs=BpaRKvA4VqFcLMPh5cVl%252BQ%3D%3D; Arrow Part Number: ADM3485ARZ; Arrow Price/Stock: https://www.arrow.com/en/products/adm3485arz/analog-devices?region=nac
footprint SOIC127P600X175-8N
pins: 1 RO, 2 ~{RE}, 3 DE, 4 DI, 5 GND, 6 A, 7 B, 8 5V

## GNL-5012GD
designator HL?
LED, 5mm, Green; Manufacturer_Name: G-NOR ELECTRONICS; Datasheet Link: https://static.chipdip.ru/lib/796/DOC059796154.pdf; Manufacturer_Part_Number: GNL-5012GD
footprint LED_5mm_green (Footprint not found)
pins: 1 C, 2 A

## GNL-5012HD
designator HL?
LED, 5mm, Red; Manufacturer_Name: G-NOR ELECTRONICS; Datasheet Link: https://static.chipdip.ru/lib/815/DOC059815856.pdf; Manufacturer_Part_Number: GNL-5012HD
footprint LED_5mm_red
pins: 1 C, 2 A

## GNL-5012YD
designator HL?
LED, 5mm, Green; Manufacturer_Name: G-NOR ELECTRONICS; Datasheet Link: https://static.chipdip.ru/lib/796/DOC059796154.pdf; Manufacturer_Part_Number: GNL-5012YD
footprint LED_5mm_yellow
pins: 1 C, 2 A

## H3-ADT16-6T+
designator TR?
TRANSFORMER, 0.3-70MHz 50Ω 1:16 Balun with CT; Manufacturer_Name: Chengdu HenryTech; Datasheet Link: https://www.minicircuits.com/WebStore/dashboardPdf?model=ADT16-6T%2B; Height: 5.23mm; Manufacturer_Part_Number: H3-ADT16-6T+; Mouser Part Number: 139-ADT16-6T; Mouser Price/Stock: https://www.mouser.co.uk/ProductDetail/Mini-Circuits/ADT16-6T%2b?qs=xZ%2FP%252Ba9zWqb%252Bxz%252BhMFfvMQ%3D%3D
footprint H3-ADT16-6T+ (Chengdu / Mini-Circuits reverse)
pins: 1 SECONDARY, 2 SECONDARY_CT, 3 SECONDARY_DOT, 4 PRIMARY_DOT, 6 PRIMARY
text: PRI; SEC

## H1102NL
designator T?
Transformer; Manufacturer_Name: Pulse Electronics; Manufacturer_Part_Number: H1102NL; Datasheet Link: https://productfinder.pulseeng.com/products/datasheets/h1102nl.pdf; Height: 5.97mm; Mouser Part Number: 673-H1102NL; Mouser Price/Stock: https://www.mouser.co.uk/ProductDetail/Pulse-Electronics/H1102NL?qs=EKu32SdDin%2FHU33L94JZxw%3D%3D; Arrow Part Number: H1102NL; Arrow Price/Stock: https://www.arrow.com/en/products/h1102nl/pulse-electronics-corporation?region=europe
footprint SOIC127P940X597-16N
pins: 1 TD+, 2 CT_1, 3 TD-, 4 NC_1, 5 NC_2, 6 RD+, 7 CT_2, 8 RD-, 9 RX-, 10 NC_3, 11 RX+, 12 NC_4, 13 NC_5, 14 TX-, 15 NC_6, 16 TX+

## H2405S-2WR3
designator U?
Power Supply, 2W isolated, DIP
footprint H_S-2WR3
pins: 1 +VIN, 2 -VIN, 5 -VOUT, 7 +VOUT

## H5007NL
designator T?
Transformer; Manufacturer_Name: Pulse Electronics; Manufacturer_Part_Number: H5007NL; Datasheet Link: https://productfinder.pulseeng.com/products/datasheets/HC500.pdf; Height: 5.51mm; Mouser Part Number: 673-H5007NL; Mouser Price/Stock: https://www.mouser.co.uk/ProductDetail/Pulse-Electronics/H5007NL?qs=EKu32SdDin9FBxETK8sXDg%3D%3D; Arrow Part Number: H5007NL; Arrow Price/Stock: https://www.arrow.com/en/products/h5007nl/pulse-electronics-corporation?region=nac
footprint SOIC127P1600X551-24N
pins: 1 TCT1, 2 TD1+, 3 TD1-, 4 TCT2, 5 TD2+, 6 TD2-, 7 TCT3, 8 TD3+, 9 TD3-, 10 TCT4, 11 TD4+, 12 TD4-, 13 MX4-, 14 MX4+, 15 MCT4, 16 MX3-, 17 MX3+, 18 MCT3, 19 MX2-, 20 MX2+, 21 MCT2, 22 MX1-, 23 MX1+, 24 MCT1

## H5007NLT
designator T?
LAN XFMR 1CT:1CT SMD; Manufacturer_Name: Yageo Group; Manufacturer_Part_Number: H5007NLT; Datasheet Link: https://datasheet.datasheetarchive.com/originals/dk/DKDS-5/86652.pdf; Height: 5.51mm; Mouser Part Number: 673-H5007NLT; Mouser Price/Stock: https://www.mouser.co.uk/ProductDetail/Pulse-Electronics/H5007NLT?qs=EKu32SdDin%252B3U21HrYPGPw%3D%3D; Arrow Part Number: H5007NLT; Arrow Price/Stock: https://www.arrow.com/en/products/h5007nlt/pulse-electronics-corporation.html?utm_currency=USD&region=nac
footprint SOIC127P1600X551-24N
pins: 1 TCT1, 2 TD1+, 3 TD1-, 4 TCT2, 5 TD2+, 6 TD2-, 7 TCT3, 8 TD3+, 9 TD3-, 10 TCT4, 11 TD4+, 12 TD4-, 13 MX4-, 14 MX4+, 15 MCT4, 16 MX3-, 17 MX3+, 18 MCT3, 19 MX2-, 20 MX2+, 21 MCT2, 22 MX1-, 23 MX1+, 24 MCT1

## HC49 8MHz
designator BQ?
Crystal or Oscillator; Manufacturer_Name: QUARTZ HC-49; Height: 3.5mm; Manufacturer_Part_Number: 8 MHz
footprint HC49
pins: 1, 2 CRYSTAL_2

## HC49SM-8MHz
designator Y?, comment 8MHz
Crystal or Oscillator; Manufacturer_Part_Number: HC49SM-25MHz; Height: 4mm
footprint HC49SM (Footprint not found)
pins: 1, 2

## HC49SM-10MHz
designator Y?, comment 10MHz
Crystal or Oscillator; Manufacturer_Part_Number: HC49SM-10MHz; Height: 4mm
footprint HC49SM (Footprint not found)
pins: 1, 2

## HC49SM-25MHz
designator Y?
Crystal or Oscillator; Manufacturer_Part_Number: HC49SM-25MHz; Height: 4mm
footprint HC49SM1230506016ATF
footprint HC49
pins: 1, 2

## HCPL-2631-300E
designator Q?
Phototransistor; Manufacturer_Name: Avago Technologies; Manufacturer_Part_Number: HCPL-2631-300E; Datasheet Link: https://www.mouser.com/datasheet/2/678/V02-0940EN_DS_6N137_2018-03-23-1112306.pdf; Mouser Part Number: 630-HCPL-2631-300E; Mouser Price/Stock: https://www.mouser.co.uk/ProductDetail/Broadcom-Avago/HCPL-2631-300E?qs=s%252BgfxR24RQ5y0yf12DdOLQ%3D%3D
footprint HCPL2200300E
pins: 1 A_1, 2 K_1, 3 K_2, 4 A_2, 5 GND, 6 V02, 7 V01, 8 VCC

## HEADER_4pin_5mm
designator X?  (no BOM)
Connector
footprint HEADER_4pin_5mm (Footprint not found)
pins: 1, 2, 3, 4
text: КОНТ; ЦЕПЬ

## HEADER_5pin_5mm
designator X?, comment HEADER_5mm  (no BOM)
Connector
footprint HEADER_5pin_5mm (Footprint not found)
pins: 1, 2, 3, 4, 5
text: КОНТ; ЦЕПЬ

## HF3FD/005-ZST
designator K?
Relay, 5V Coil, Form C; Manufacturer_Name: Hongfa; Datasheet Link: http://www.hongfaamerica.com/hq/PDF/HF3FD_en.pdf; Height: 15.9mm; Manufacturer_Part_Number: HF3FD/005-ZST
footprint HF3FD012ZTF257
pins: 1 COIL_1, 2 NC, 3 NO, 4 COIL_2, 5 COM

## HF3FD/012-ZST
designator K?
Relay, 12V Coil, 5V/240VAC, Form C; Manufacturer_Name: Hongfa; Datasheet Link: http://www.hongfaamerica.com/hq/PDF/HF3FD_en.pdf; Height: 15.9mm; Manufacturer_Part_Number: HF3FD/012-ZST
footprint HF3FD012ZTF257
pins: 1 COIL_1, 2 NC, 3 NO, 4 COIL_2, 5 COM

## HF32F-G/024-HST
designator REL?
Power Relay 24VDC COIL 10A, 1 Form A
footprint HF32F
pins: 1 COIL_1, 2 NC, 3 NO, 5 COM

## HF32F/012-ZS3
designator REL?
Power Relay 12VDC COIL 10A, 1 Form C
footprint HF32F
pins: 1 COIL_1, 2 NC, 3 NO, 4 COIL_2, 5 COM

## HF49FD_005-1H11F
designator K?
Relay or Contactor; Manufacturer_Name: Hongfa; Manufacturer_Part_Number: HF49FD/005-1H11F; Datasheet Link: https://www.tme.eu/en/Document/f3d887acae5a2f74997c256c6736c56d/HF49FD_en.pdf; Height: 12mm
footprint HF49FD0051H11F
pins: 1 NC, 2 NO, 3 COIL_1, 4 COIL_2

## HF115F-A/230-2Z4A
designator K?
Relay o; Manufacturer_Name: Hongfa; Manufacturer_Part_Number: HF115F-A/230-2Z4A; Datasheet Link: https://www.promelec.ru/fs/sources/18/1d/46/29/ea14cb585d76c992e04a6d48.pdf; Height: 16mm; Arrow Part Number: HF115FK/12-2Z4T(610); Arrow Price/Stock: https://www.arrow.com/en/products/hf115fk12-2z4t-610/hongfa-europe-gmbh
footprint HF115FK122Z4T610
pins: 1 A1, 2 A2, 11 1_COM, 12 1_NC, 13 1_NO, 21 2_COM, 22 2_NC, 23 2_NO

## HF187F_12-4HBTF
designator K?
Relay or Contactor; Manufacturer_Name: Hongfa; Manufacturer_Part_Number: HF187F/12-4HBTF; Datasheet Link: https://source.hongfa.com//pdf/web/viewer.html?file=\Uploads\Product\PDF\HF187F_en.pdf&timestamp=1680773911; Height: 47mm
footprint HF187F124HBTF
pins: 1 COIL_1, 2 NO_1, 3 NO_2, 4 NO_3, 5 NO_4, 6 COM_1, 7 COM_2, 8 COM_3, 9 COM_4, 10 COIL_2, 11 NC, 12 COM_5

## HFD4/5-SR
designator K?
Relay or Contactor; Manufacturer_Name: Hongfa; Manufacturer_Part_Number: HFD4/4.5-SR; Datasheet Link: https://source.hongfa.com//Api/DownloadPdf/353; Height: 6.05mm; Arrow Part Number: HFD4/4.5-SR; Arrow Price/Stock: https://www.arrow.com/en/products/hfd44.5-sr/hongfa-europe-gmbh?region=europe
footprint HFD445SR
pins: 1 COIL+, 2 NC_1, 3 COM_1, 4 NO_1, 5 NO_2, 6 COM_2, 7 NC_2, 8 COIL-

## HFE10-1/24-HT-L2
designator K?
Relay, 50A, 24V; Manufacturer_Name: Hongfa; Manufacturer_Part_Number: HFE10-1/24-HT-L2; Datasheet Link: https://cdn.promelec.ru/upload/items/2020/09/08/hfe10_en.pdf; Height: 30; Arrow Part Number: HF115FK/12-2Z4T(610); Arrow Price/Stock: https://www.arrow.com/en/products/hf115fk12-2z4t-610/hongfa-europe-gmbh
footprint HFE10112HSTL2257
pins: 1 A1, 2 A2, 3 NO, 4 COM, 5 24V

## HFKW/012-01Z
designator K?
Relay; Manufacturer_Name: HF(Xiamen Hongfa Electroacoustic); Manufacturer_Part_Number: HFKW/012-1Z; Datasheet Link: https://img.ozdisan.com/ETicaret_Dosya/341245_8627675.pdf; Height: 15.5mm; LCSC Part #: C9221
footprint HFKW Relay
pins: 1 COIL_1, 2 NC, 3 NO, 4 COIL_2, 5 COM

## HI3516_CAMERA_MODULE
designator MH?
4 * KF2-M3
footprint CAMERA_MODULE (Footprint not found)
text: CAMERA MODULE; 4 отв. d4.2; пресс-гайка; под винт M3

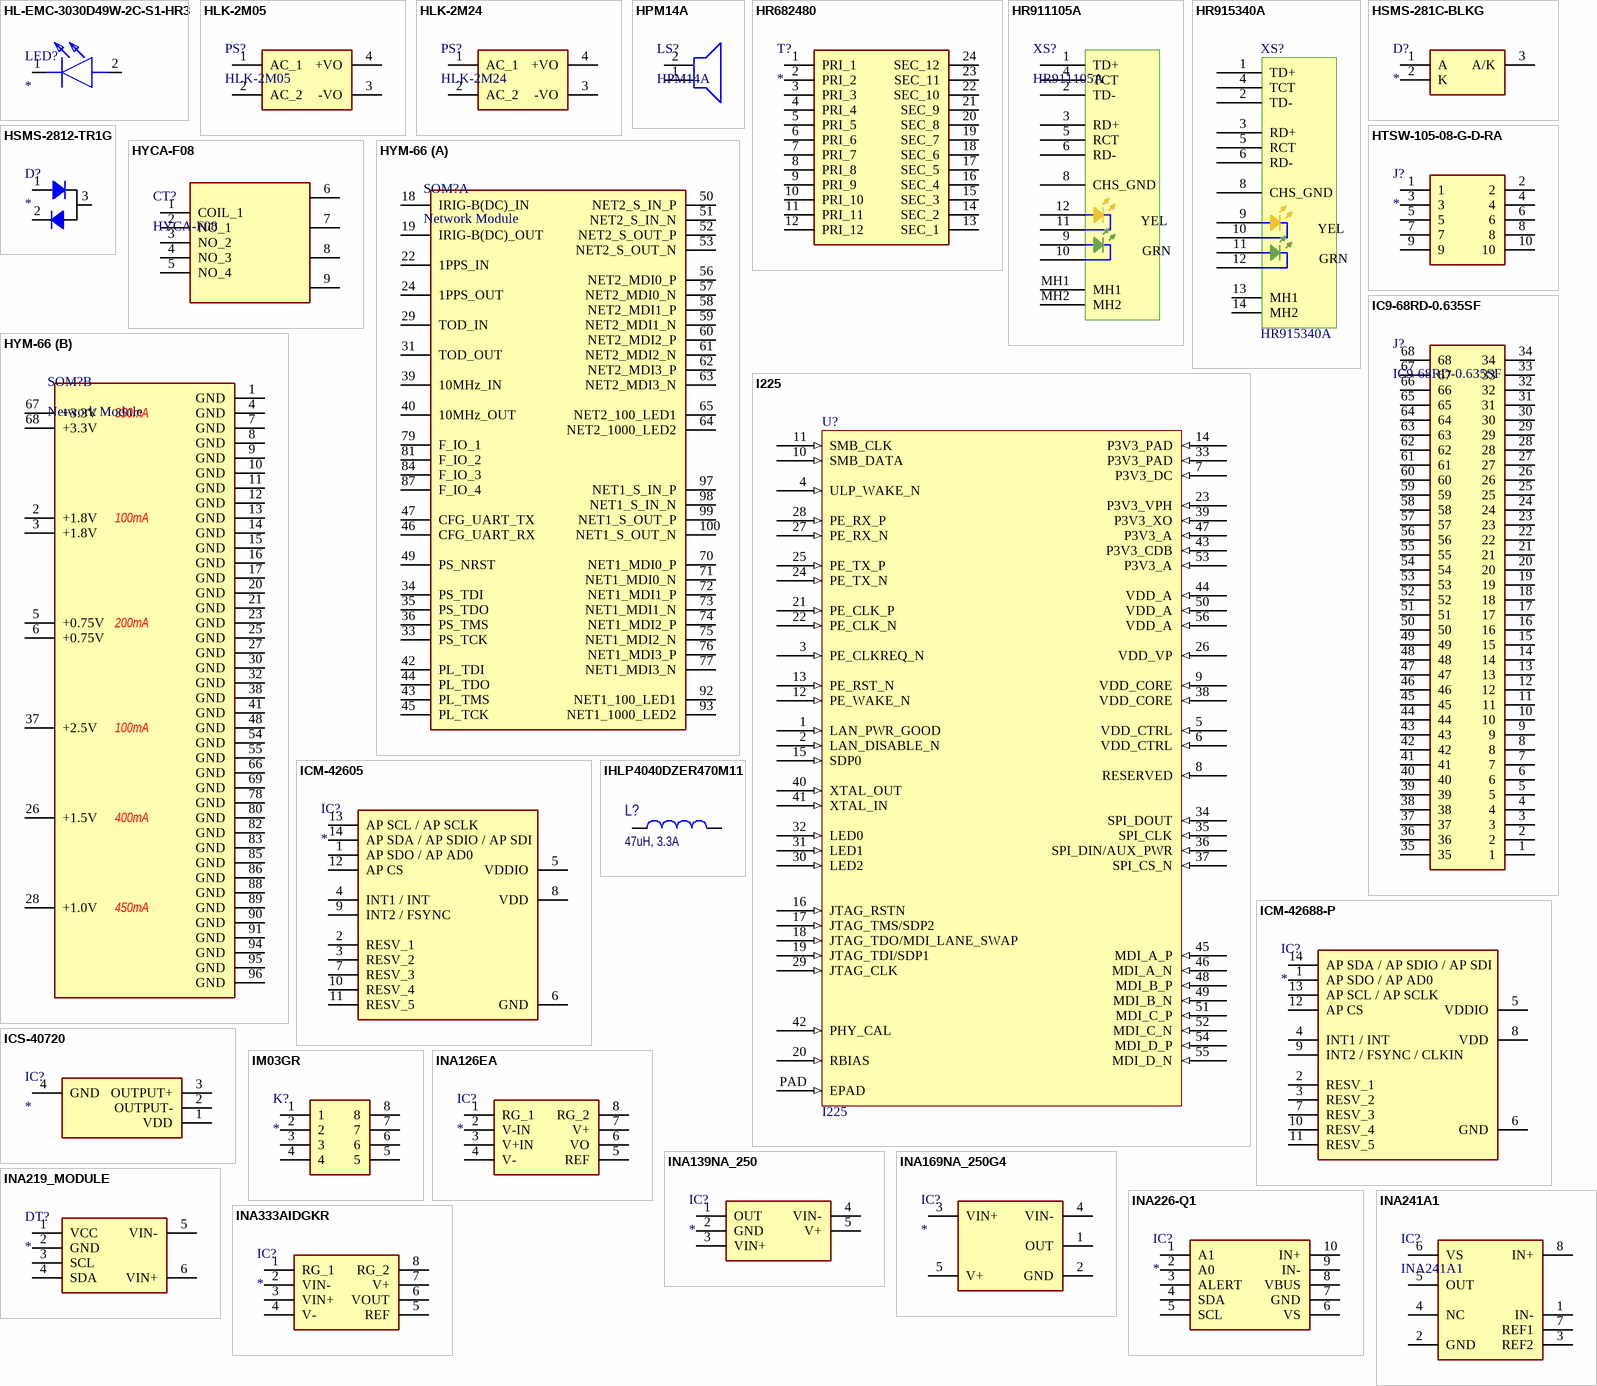
[diagram p20: symbols HL-EMC-3030D49W-2C-S1-HR3 to INA333AIDGKR]

## HL-EMC-3030D49W-2C-S1-HR3
designator LED?
LED; Manufacturer_Name: Hongli Zhihui (HONGLITRONIC); Manufacturer_Part_Number: HL-EMC-3030D49W-2C-S1-HR3; Datasheet Link: https://4donline.ihs.com/images/VipMasterIC/IC/GHTC/GHTCS01244/GHTCS01244-1.pdf?hkey=EF798316E3902B6ED9A73243A3159BB0; Height: 0.67mm
footprint HLEMC3030D49W2CS1HR3
pins: 1 K, 2 A

## HLK-2M05
designator PS?
Power Supply 2W 220VAC 5VDC 400mA; Manufacturer_Name: Hi-Link; Height: 19mm; Manufacturer_Part_Number: HLK-2M05
footprint HLK2M
pins: 1 AC_1, 2 AC_2, 3 -VO, 4 +VO

## HLK-2M24
designator PS?
Power Supply 2W 220VAC 24VDC 83mA; Manufacturer_Name: Hi-Link; Height: 19mm; Manufacturer_Part_Number: HLK-2M24
footprint HLK2M
pins: 1 AC_1, 2 AC_2, 3 -VO, 4 +VO

## HPM14A
designator LS?
Buzzer, 5V; Manufacturer_Name: JL World; Datasheet Link: https://static.chipdip.ru/lib/243/DOC000243409.pdf; Manufacturer_Part_Number: HPM14A
footprint HPM14A
pins: 1, 2

## HR682480
designator T?
Transformer; Manufacturer_Name: HR COMPONENTS/IVO; Manufacturer_Part_Number: HR682480; Datasheet Link: http://www.hqelec.com/spec/hanrun/hr682480.pdf; Height: 4.318mm
footprint SOP99P1016X432-24N
pins: 1 PRI_1, 2 PRI_2, 3 PRI_3, 4 PRI_4, 5 PRI_5, 6 PRI_6, 7 PRI_7, 8 PRI_8, 9 PRI_9, 10 PRI_10, 11 PRI_11, 12 PRI_12, 13 SEC_1, 14 SEC_2, 15 SEC_3, 16 SEC_4, 17 SEC_5, 18 SEC_6, 19 SEC_7, 20 SEC_8, 21 SEC_9, 22 SEC_10, 23 SEC_11, 24 SEC_12

## HR911105A
designator XS?
Connector, RJ-45, MagJack; Manufacturer_Name: Hanrun Electronics; Datasheet Link: https://datasheet.lcsc.com/szlcsc/Zhongshan-HanRun-Elec-HR911105A_C12074.pdf; Height: 13.75mm; Manufacturer_Part_Number: HR911105A
footprint HR911105A (Footprint not found)
pins: 1 TD+, 2 TD-, 3 RD+, 4 TCT, 5 RCT, 6 RD-, 8 CHS_GND, 9 P9, 10 P10, 11 P11, 12 P12, MH1, MH2
text: YEL; GRN

## HR915340A
designator XS?
Connector; Manufacturer_Name: Hanrun Electronics; Datasheet Link: https://datasheet.lcsc.com/lcsc/2103161034_HANRUN-Zhongshan-HanRun-Elec-HR915340A_C2760325.pdf; Height: 13.8mm; Manufacturer_Part_Number: HR915340A
footprint HR915340A
pins: 1 TD+, 2 TD-, 3 RD+, 4 TCT, 5 RCT, 6 RD-, 8 CHS_GND, 9 P9, 10 P10, 11 P11, 12 P12, 13 MH1, 14 MH2
text: YEL; GRN

## HSMS-281C-BLKG
designator D?
DIODE SHOTTKY RF SMD SOT-323; Manufacturer_Name: Avago Technologies; Manufacturer_Part_Number: HSMS-281C-BLKG; Datasheet Link: https://www.broadcom.com/site-search?q=HSMS-281C; Height: 1.25mm; Mouser Part Number: 630-HSMS-281C-BLKG; Mouser Price/Stock: https://www.mouser.co.uk/ProductDetail/Broadcom-Avago/HSMS-281C-BLKG?qs=RQ9zk%252B50r5E%2Fd66KEOCXrw%3D%3D
footprint HSMS281CBLKG
pins: 1 A, 2 K, 3 A/K

## HSMS-2812-TR1G
designator D?
DIODE SHOTTKY RF SMD SOT-23; Manufacturer_Name: Avago Technologies; Manufacturer_Part_Number: HSMS-2812-TR1G; Datasheet Link: https://datasheet.datasheetarchive.com/originals/distributors/Datasheets_SAMA/c634d697c78a75505da27982a41ee1ef.pdf; Height: 1.2mm; Mouser Part Number: 630-HSMS-2812-TR1G; Mouser Price/Stock: https://www.mouser.co.uk/ProductDetail/Broadcom-Avago/HSMS-2812-TR1G?qs=RQ9zk%252B50r5HMPcq1DWBXrg%3D%3D
footprint SOT96P240X120-3N
pins: 1, 2, 3

## HTSW-105-08-G-D-RA
designator J?
Connector; Manufacturer_Name: SAMTEC; Manufacturer_Part_Number: HTSW-105-08-G-D-RA; Datasheet Link: https://componentsearchengine.com/Datasheets/2/HTSW-105-08-G-D-RA.pdf; Height: 6.1mm; Mouser Part Number: 200-HTSW10508GDRA; Mouser Price/Stock: https://www.mouser.co.uk/ProductDetail/Samtec/HTSW-105-08-G-D-RA?qs=0lQeLiL1qyZb8ERiSnm3Lg%3D%3D; Arrow Part Number: HTSW-105-08-G-D-RA; Arrow Price/Stock: https://www.arrow.com/en/products/htsw-105-08-g-d-ra/samtec?region=europe
footprint HDRRA10W64P254_2X5_1270X254X610P
pins: 1, 2, 3, 4, 5, 6, 7, 8, 9, 10

## HYCA-F08
designator CT?
Resudual Current Sensor; Height: 27mm; Manufacturer_Part_Number: HYCA-F08
footprint HYCAF08 (Footprint not found)
pins: 1 COIL_1, 2 NO_1, 3 NO_2, 4 NO_3, 5 NO_4, 6 COM_1, 7 COM_2, 8 COM_3, 9 COM_4

## HYM-66
designator SOM?, comment Network Module
HYM-66 PTP/NTP Network Module; Manufacturer_Name: Chengdu Hengyu Chuangxiang Technology; Height: 3.7; Manufacturer_Part_Number: HYM-66; Mouser Price/Stock: https://www.mouser.co.uk/ProductDetail/STMicroelectronics/STM32F405RGT6?qs=Z8%252BeY1k3TIKgj7QWsYGpQw%3D%3D
footprint HYM-66
footprint HYM-66 - Radiator
part A pins: 18 IRIG-B(DC)_IN, 19 IRIG-B(DC)_OUT, 22 1PPS_IN, 24 1PPS_OUT, 29 TOD_IN, 31 TOD_OUT, 33 PS_TCK, 34 PS_TDI, 35 PS_TDO, 36 PS_TMS, 39 10MHz_IN, 40 10MHz_OUT, 42 PL_TDI, 43 PL_TMS, 44 PL_TDO, 45 PL_TCK, 46 CFG_UART_RX, 47 CFG_UART_TX, 49 PS_NRST, 50 NET2_S_IN_P, 51 NET2_S_IN_N, 52 NET2_S_OUT_P, 53 NET2_S_OUT_N, 56 NET2_MDI0_P, 57 NET2_MDI0_N, 58 NET2_MDI1_P, 59 NET2_MDI1_N, 60 NET2_MDI2_P, 61 NET2_MDI2_N, 62 NET2_MDI3_P, 63 NET2_MDI3_N, 64 NET2_1000_LED2, 65 NET2_100_LED1, 70 NET1_MDI0_P, 71 NET1_MDI0_N, 72 NET1_MDI1_P, 73 NET1_MDI1_N, 74 NET1_MDI2_P, 75 NET1_MDI2_N, 76 NET1_MDI3_P, 77 NET1_MDI3_N, 79 F_IO_1, 81 F_IO_2, 84 F_IO_3, 87 F_IO_4, 92 NET1_100_LED1, 93 NET1_1000_LED2, 97 NET1_S_IN_P, 98 NET1_S_IN_N, 99 NET1_S_OUT_P, 100 NET1_S_OUT_N
part B pins: 1 GND, 2 +1.8V, 3 +1.8V, 4 GND, 5 +0.75V, 6 +0.75V, 7 GND, 8 GND, 9 GND, 10 GND, 11 GND, 12 GND, 13 GND, 14 GND, 15 GND, 16 GND, 17 GND, 20 GND, 21 GND, 23 GND, 25 GND, 26 +1.5V, 27 GND, 28 +1.0V, 30 GND, 32 GND, 37 +2.5V, 38 GND, 41 GND, 48 GND, 54 GND, 55 GND, 66 GND, 67 +3.3V, 68 +3.3V, 69 GND, 78 GND, 80 GND, 82 GND, 83 GND, 85 GND, 86 GND, 88 GND, 89 GND, 90 GND, 91 GND, 94 GND, 95 GND, 96 GND
part B text: 350mA; 100mA; 200mA; 400mA; 450mA

## I225
designator U?
IC ETH Controller QFN56
footprint I225 QFN56
pins: 1 LAN_PWR_GOOD (in), 2 LAN_DISABLE_N (in), 3 PE_CLKREQ_N (in), 4 ULP_WAKE_N (in), 5 VDD_CTRL (in), 6 VDD_CTRL (in), 7 P3V3_DC (in), 8 RESERVED (in), 9 VDD_CORE (in), 10 SMB_DATA (in), 11 SMB_CLK (in), 12 PE_WAKE_N (in), 13 PE_RST_N (in), 14 P3V3_PAD (in), 15 SDP0 (in), 16 JTAG_RSTN (in), 17 JTAG_TMS/SDP2 (in), 18 JTAG_TDO/MDI_LANE_SWAP (in), 19 JTAG_TDI/SDP1 (in), 20 RBIAS (in), 21 PE_CLK_P (in), 22 PE_CLK_N (in), 23 P3V3_VPH (in), 24 PE_TX_N (in), 25 PE_TX_P (in), 26 VDD_VP (in), 27 PE_RX_N (in), 28 PE_RX_P (in), 29 JTAG_CLK (in), 30 LED2 (in), 31 LED1 (in), 32 LED0 (in), 33 P3V3_PAD (in), 34 SPI_DOUT (in), 35 SPI_CLK (in), 36 SPI_DIN/AUX_PWR (in), 37 SPI_CS_N (in), 38 VDD_CORE (in), 39 P3V3_XO (in), 40 XTAL_OUT (in), 41 XTAL_IN (in), 42 PHY_CAL (in), 43 P3V3_CDB (in), 44 VDD_A (in), 45 MDI_A_P (in), 46 MDI_A_N (in), 47 P3V3_A (in), 48 MDI_B_P (in), 49 MDI_B_N (in), 50 VDD_A (in), 51 MDI_C_P (in), 52 MDI_C_N (in), 53 P3V3_A (in), 54 MDI_D_P (in), 55 MDI_D_N (in), 56 VDD_A (in), PAD EPAD (in)

## IC9-68RD-0.635SF
designator J?
Connector Card Bus Socket; Manufacturer_Name: Hirose; Height: 2.83mm; Manufacturer_Part_Number: IC9-68RD-0.635SF
footprint IC9-68RD-0.635SF (Footprint not found)
pins: 1, 2, 3, 4, 5, 6, 7, 8, 9, 10, 11, 12, 13, 14, 15, 16, 17, 18, 19, 20, 21, 22, 23, 24, 25, 26, 27, 28, 29, 30, 31, 32, 33, 34, 35, 36, 37, 38, 39, 40, 41, 42, 43, 44, 45, 46, 47, 48, 49, 50, 51, 52, 53, 54, 55, 56, 57, 58, 59, 60, 61, 62, 63, 64, 65, 66, 67, 68

## ICM-42605
designator IC?
Accelerometer, Low Power High Performance 6-Axis MEMS Device; Manufacturer_Name: TDK; Manufacturer_Part_Number: ICM-42605; Datasheet Link: https://3cfeqx1hf82y3xcoull08ihx-wpengine.netdna-ssl.com/wp-content/uploads/2020/09/DS-000292-ICM-42605-v1.5.pdf; Mouser Part Number: 410-ICM-42605; Mouser Price/Stock: https://www.mouser.co.uk/ProductDetail/TDK-InvenSense/ICM-42605?qs=gZXFycFWdAO0MPgeewGYjQ%3D%3D; Arrow Part Number: ICM-42605; Arrow Price/Stock: https://www.arrow.com/en/products/icm-42605/invensense?utm_currency=USD&region=europe
footprint IIM42352
pins: 1 AP SDO / AP AD0, 2 RESV_1, 3 RESV_2, 4 INT1 / INT, 5 VDDIO, 6 GND, 7 RESV_3, 8 VDD, 9 INT2 / FSYNC, 10 RESV_4, 11 RESV_5, 12 AP CS, 13 AP SCL / AP SCLK, 14 AP SDA / AP SDIO / AP SDI

## ICM-42688-P
designator IC?
Integrated Circuit; Manufacturer_Name: TDK; Manufacturer_Part_Number: ICM-42688-P; Datasheet Link: https://3cfeqx1hf82y3xcoull08ihx-wpengine.netdna-ssl.com/wp-content/uploads/2021/06/DS-000347-ICM-42688-P-v1.5.pdf; Mouser Part Number: 410-ICM-42688-P; Mouser Price/Stock: https://www.mouser.co.uk/ProductDetail/TDK-InvenSense/ICM-42688-P?qs=OlC7AqGiEDk8QrNAV728zw%3D%3D; Arrow Part Number: ICM-42688-P; Arrow Price/Stock: https://www.arrow.com/en/products/icm-42688-p/invensense?utm_currency=USD&region=nac
footprint IIM42352
pins: 1 AP SDO / AP AD0, 2 RESV_1, 3 RESV_2, 4 INT1 / INT, 5 VDDIO, 6 GND, 7 RESV_3, 8 VDD, 9 INT2 / FSYNC / CLKIN, 10 RESV_4, 11 RESV_5, 12 AP CS, 13 AP SCL / AP SCLK, 14 AP SDA / AP SDIO / AP SDI

## ICS-40720
designator IC?
Integrated Circuit; Manufacturer_Name: TDK; Manufacturer_Part_Number: ICS-40720; Datasheet Link: https://product.tdk.com/system/files/dam/doc/product/sw_piezo/mic/mems-mic/data_sheet/ds-000045-v1.3-ics-40720.pdf; Height: 1.3mm; Mouser Part Number: 410-ICS-40720; Mouser Price/Stock: https://www.mouser.co.uk/ProductDetail/TDK-InvenSense/ICS-40720?qs=u4fy%2FsgLU9Pq9KZ5FvTv0Q%3D%3D
footprint ICS40720
pins: 1 VDD, 2 OUTPUT-, 3 OUTPUT+, 4 GND

## IHLP4040DZER470M11
designator L?, comment 47uH, 3.3A
Inductor; Manufacturer: VISHAY; Manufacturer Part Number: IHLP4040DZER470M11
footprint INDPM108102X400N
pins: 1, 2

## IM03GR
designator K?
Relay or Contactor; Manufacturer_Name: TE Connectivity; Manufacturer_Part_Number: IM03GR; Datasheet Link: https://datasheet.datasheetarchive.com/originals/distributors/Datasheets_SAMA/af0478e68580ade93768a4593bd7be66.pdf; Mouser Part Number: 655-IM03GR; Mouser Price/Stock: https://www.mouser.co.uk/ProductDetail/TE-Connectivity/IM03GR?qs=h8jywBNgiq20bLq7q22y%252Bg%3D%3D; Arrow Part Number: IM03GR; Arrow Price/Stock: https://www.arrow.com/en/products/im03gr/te-connectivity?utm_currency=USD&region=nac
footprint IM06GR
pins: 1, 2, 3, 4, 5, 6, 7, 8

## INA126EA
designator IC?
Integrated Circuit; Manufacturer_Name: Texas Instruments; Manufacturer_Part_Number: INA126EA; Datasheet Link: https://datasheet.datasheetarchive.com/originals/distributors/Datasheets-SFU2/DSASFU100026213.pdf; Height: 1.1mm
footprint SOP65P490X110-8N
pins: 1 RG_1, 2 V-IN, 3 V+IN, 4 V-, 5 REF, 6 VO, 7 V+, 8 RG_2

## INA139NA_250
designator IC?
Integrated Circuit; Manufacturer_Name: Texas Instruments; Manufacturer_Part_Number: INA139NA/250; Datasheet Link: http://www.ti.com/lit/ds/symlink/ina139.pdf; Height: 1.45mm; Mouser Part Number: 595-INA139NA/250; Mouser Price/Stock: https://www.mouser.co.uk/ProductDetail/Texas-Instruments/INA139NA-250?qs=VBduBm9rCJQSYOixXF05Zw%3D%3D; Arrow Part Number: INA139NA/250; Arrow Price/Stock: https://www.arrow.com/en/products/ina139na250/texas-instruments?region=nac
footprint SOT95P280X145-5N
pins: 1 OUT, 2 GND, 3 VIN+, 4 VIN-, 5 V+

## INA169NA_250G4
designator IC?
Integrated Circuit; Manufacturer_Name: Texas Instruments; Manufacturer_Part_Number: INA169NA/250G4; Datasheet Link: https://www.ti.com/lit/ds/symlink/ina169.pdf?ts=1607068074354&ref_url=https%253A%252F%252Fwww.google.com%252F; Height: 1.45mm; Mouser Part Number: 595-INA169NA/250G4; Mouser Price/Stock: https://www.mouser.co.uk/ProductDetail/Texas-Instruments/INA169NA-250G4?qs=yhNIDeTE%252Bcayuu5ly9H%252BEA%3D%3D; Arrow Part Number: INA169NA/250G4; Arrow Price/Stock: https://www.arrow.com/en/products/ina169na250g4/texas-instruments?region=nac
footprint SOT95P280X145-5N
pins: 1 OUT, 2 GND, 3 VIN+, 4 VIN-, 5 V+

## INA219_MODULE
designator DT?
Current Sensor module, 3.2A, 26V; Manufacturer_Name: Vishay; Manufacturer_Part_Number: DF01SA-E3/45; Datasheet Link: https://www.arrow.com/en/products/df01sa-e345/vishay; Height: 3.63mm; Mouser Part Number: 625-DF01SA-E3; Mouser Price/Stock: https://www.mouser.co.uk/ProductDetail/Vishay-General-Semiconductor/DF01SA-E3-45?qs=lTgc38YOCCrpaTKQDA1AVA%3D%3D; Arrow Part Number: DF01SA-E3/45; Arrow Price/Stock: https://www.arrow.com/en/products/df01sa-e345/vishay?region=nac
footprint INA219_MODULE
pins: 1 VCC, 2 GND, 3 SCL, 4 SDA, 5 VIN-, 6 VIN+

## INA226-Q1
designator IC?
Integrated Circuit; Manufacturer_Name: Texas Instruments; Manufacturer_Part_Number: INA226-Q1; Datasheet Link: https://www.ti.com/lit/ds/symlink/ina226-q1.pdf?ts=1598372447648&ref_url=https%253A%252F%252Fwww.ti.com%252Fsitesearch%252Fdocs%252Funiversalsearch.tsp%253FsearchTerm%253DINA22; Height: 1.1mm
footprint SOP50P490X110-10N
pins: 1 A1, 2 A0, 3 ALERT, 4 SDA, 5 SCL, 6 VS, 7 GND, 8 VBUS, 9 IN-, 10 IN+

## INA241A1
designator IC?
Integrated Circuit; Manufacturer_Name: Texas Instruments; Manufacturer_Part_Number: INA241A1  (SOT-23 TYPE); Datasheet Link: https://www.ti.com/lit/ds/symlink/ina241a.pdf?ts=1651132803842&ref_url=https%253A%252F%252Fwww.ti.com%252Fproduct%252FINA241A; Height: 1.1mm
footprint SOT65P280X110-8N
pins: 1 IN-, 2 GND, 3 REF2, 4 NC, 5 OUT, 6 VS, 7 REF1, 8 IN+

## INA333AIDGKR
designator IC?
Integrated Circuit; Manufacturer_Name: Texas Instruments; Manufacturer_Part_Number: INA333AIDGKR; Datasheet Link: http://www.ti.com/lit/ds/symlink/ina333.pdf; Height: 1.1mm; Mouser Part Number: 595-INA333AIDGKR; Mouser Price/Stock: https://www.mouser.co.uk/ProductDetail/Texas-Instruments/INA333AIDGKR?qs=nJRxFdq%252BlvaKwfZOdHFpKg%3D%3D; Arrow Part Number: INA333AIDGKR; Arrow Price/Stock: https://www.arrow.com/en/products/ina333aidgkr/texas-instruments?region=nac
footprint SOP65P490X110-8N
pins: 1 RG_1, 2 VIN-, 3 VIN+, 4 V-, 5 REF, 6 VOUT, 7 V+, 8 RG_2

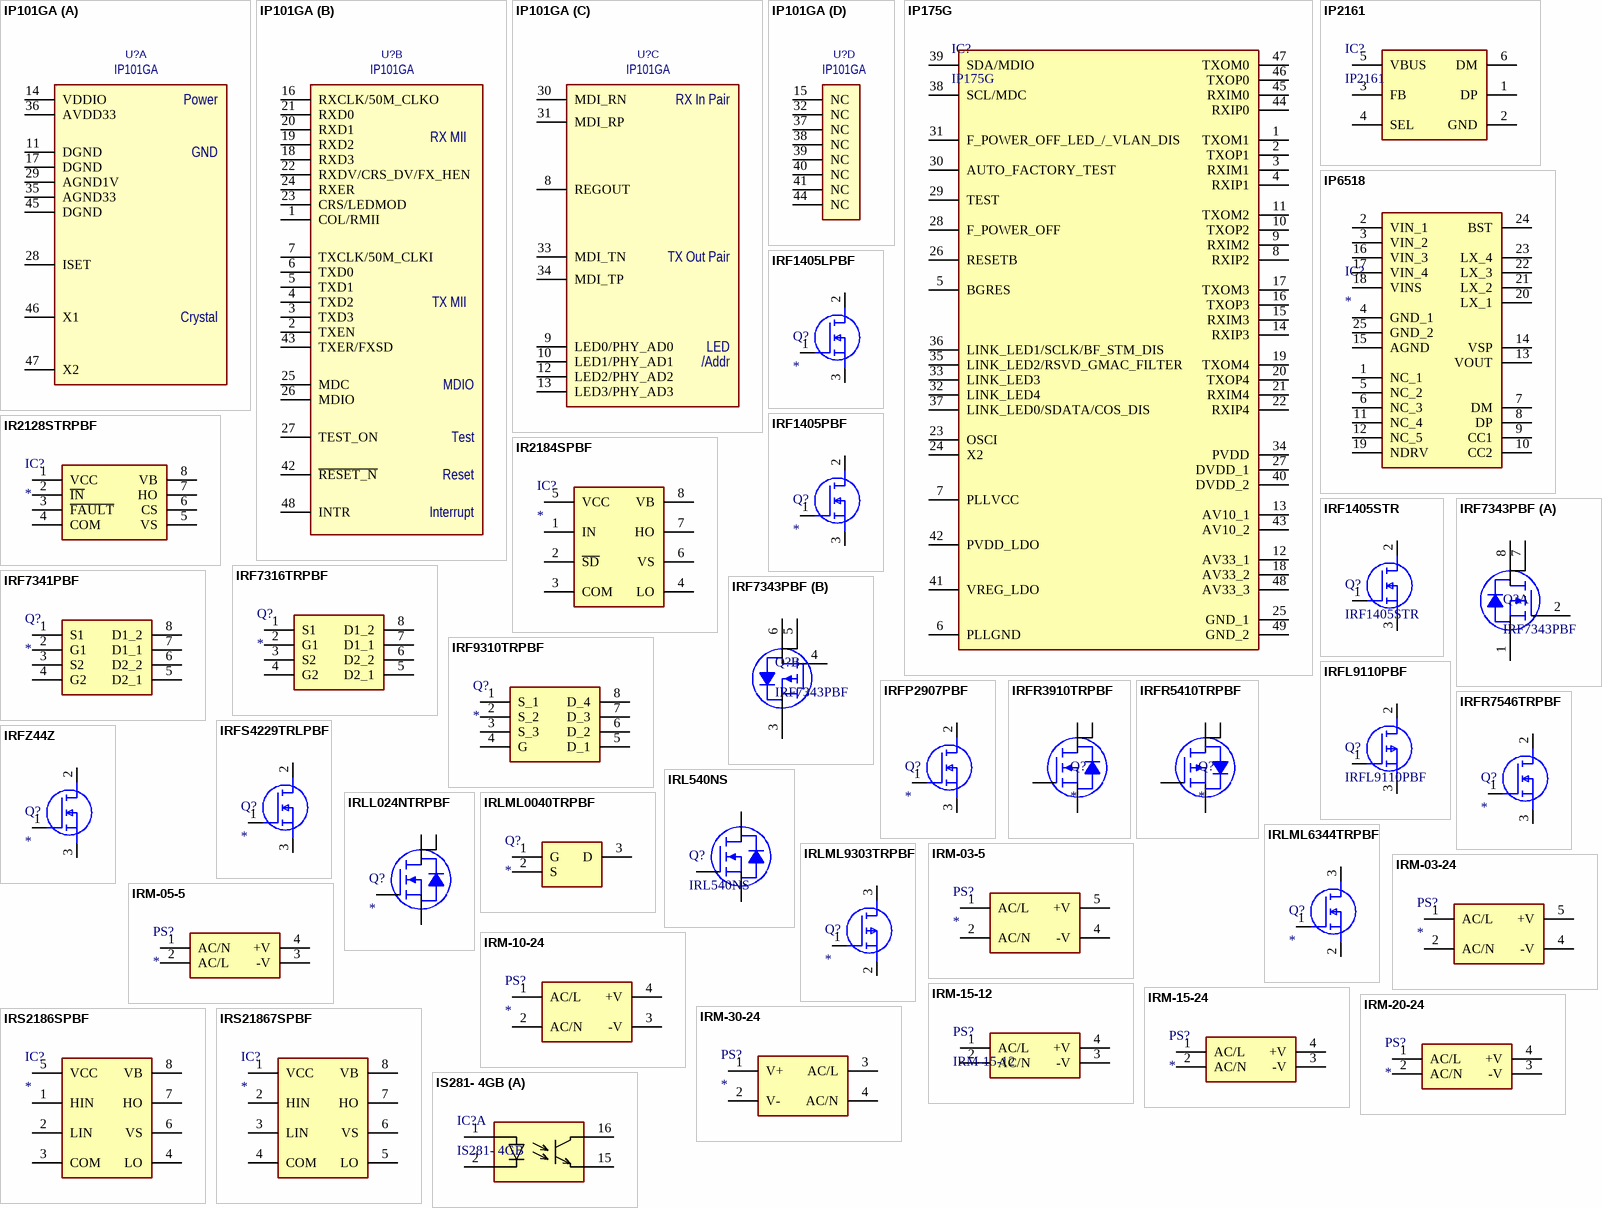
[diagram p21: symbols IP101GA to IS281- 4GB]

## IP101GA
designator U?
IT ETHERNET TRANS LQFP-48(7x7); Value: IP101GA
footprint LQFP-48 (7*7mm)
part A pins: 11 DGND, 14 VDDIO, 17 DGND, 28 ISET, 29 AGND1V, 35 AGND33, 36 AVDD33, 45 DGND, 46 X1, 47 X2
part B pins: 1 COL/RMII, 2 TXEN, 3 TXD3, 4 TXD2, 5 TXD1, 6 TXD0, 7 TXCLK/50M_CLKI, 16 RXCLK/50M_CLKO, 18 RXD3, 19 RXD2, 20 RXD1, 21 RXD0, 22 RXDV/CRS_DV/FX_HEN, 23 CRS/LEDMOD, 24 RXER, 25 MDC, 26 MDIO, 27 TEST_ON, 42 ~{RESET_N}, 43 TXER/FXSD, 48 INTR
part C pins: 8 REGOUT, 9 LED0/PHY_AD0, 10 LED1/PHY_AD1, 12 LED2/PHY_AD2, 13 LED3/PHY_AD3, 30 MDI_RN, 31 MDI_RP, 33 MDI_TN, 34 MDI_TP
part D pins: 15 NC, 32 NC, 37 NC, 38 NC, 39 NC, 40 NC, 41 NC, 44 NC
part A text: Power; GND; Crystal
part B text: RX MII; TX MII; Test; Reset; Interrupt
part C text: RX In Pair; TX Out Pair; LED; /Addr

## IP175G
designator IC?
IC ETH SWITCH 5CH; Manufacturer_Name: IC+; Height: 0.9mm; Manufacturer_Part_Number: IP175G
footprint QFN40P600X600X90-49N-D
pins: 1 TXOM1, 2 TXOP1, 3 RXIM1, 4 RXIP1, 5 BGRES, 6 PLLGND, 7 PLLVCC, 8 RXIP2, 9 RXIM2, 10 TXOP2, 11 TXOM2, 12 AV33_1, 13 AV10_1, 14 RXIP3, 15 RXIM3, 16 TXOP3, 17 TXOM3, 18 AV33_2, 19 TXOM4, 20 TXOP4, 21 RXIM4, 22 RXIP4, 23 OSCI, 24 X2, 25 GND_1, 26 RESETB, 27 DVDD_1, 28 F_POWER_OFF, 29 TEST, 30 AUTO_FACTORY_TEST, 31 F_POWER_OFF_LED_/_VLAN_DIS, 32 LINK_LED4, 33 LINK_LED3, 34 PVDD, 35 LINK_LED2/RSVD_GMAC_FILTER, 36 LINK_LED1/SCLK/BF_STM_DIS, 37 LINK_LED0/SDATA/COS_DIS, 38 SCL/MDC, 39 SDA/MDIO, 40 DVDD_2, 41 VREG_LDO, 42 PVDD_LDO, 43 AV10_2, 44 RXIP0, 45 RXIM0, 46 TXOP0, 47 TXOM0, 48 AV33_3, 49 GND_2

## IP2161
designator IC?
Integrated Circuit, USB PD Controller; Manufacturer_Name: Injonic; Datasheet Link: https://datasheet.lcsc.com/lcsc/1810010618_INJOINIC-IP2163_C185473.pdf; Height: 1mm; Manufacturer_Part_Number: IP2161; Mouser Price/Stock: https://www.mouser.com/Search/Refine.aspx?Keyword=946-MP5034GJ-P; LCSC Part Number: C185471
footprint SOT95P280X110-6N
pins: 1 DP, 2 GND, 3 FB, 4 SEL, 5 VBUS, 6 DM